# Altium integrated library Xilinx XC4000 XL.IntLib: 450 symbols (part 19 of 49)
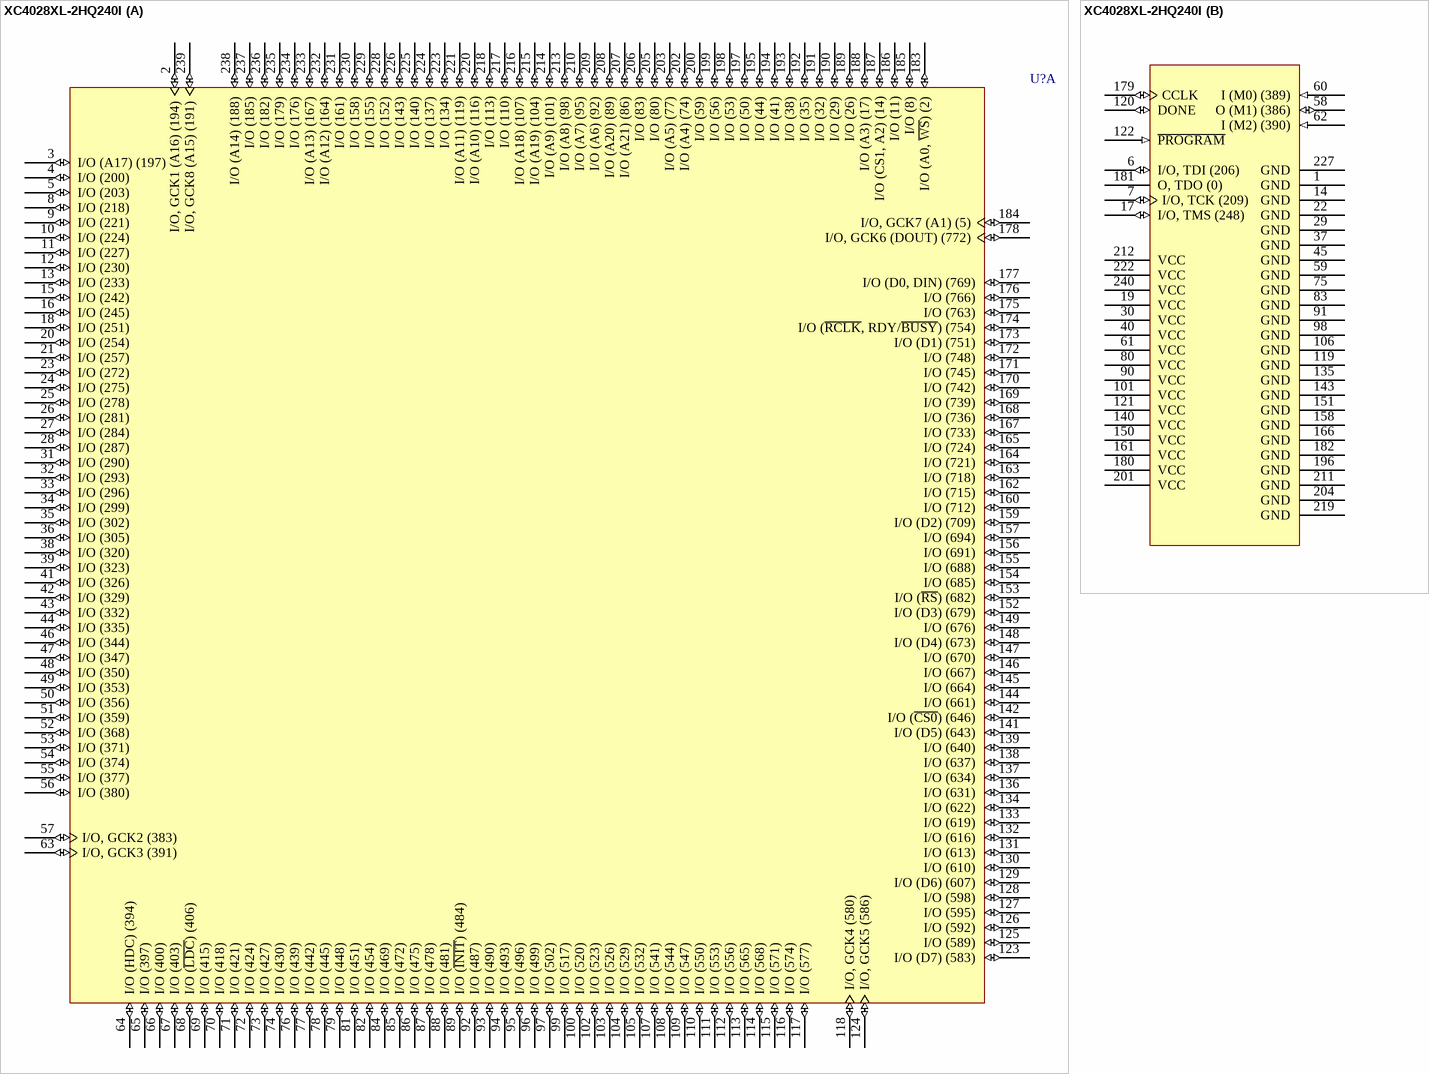
[diagram p417: symbol XC4028XL-2HQ240I]

## XC4028XL-2HQ240I
designator U?
XC4000XL FPGA, 240-Pin HQFP, Industrial Grade; PackageDocument: ver1.1, Oct-2002; Published: 28-Feb-2003; DatasheetDocument: (v1.6) May-99; PackageReference: HQ240; Publisher: Altium Limited; Code_JEDEC: MO-143-GA
footprint HQ240 (240-Pin Heat Sink Quad Flat Pack (HQ240))
part A pins: 2 I/O, GCK1 (A16) (194) (io), 3 I/O (A17) (197) (io), 4 I/O (200) (io), 5 I/O (203) (io), 8 I/O (218) (io), 9 I/O (221) (io), 10 I/O (224) (io), 11 I/O (227) (io), 12 I/O (230) (io), 13 I/O (233) (io), 15 I/O (242) (io), 16 I/O (245) (io), 18 I/O (251) (io), 20 I/O (254) (io), 21 I/O (257) (io), 23 I/O (272) (io), 24 I/O (275) (io), 25 I/O (278) (io), 26 I/O (281) (io), 27 I/O (284) (io), 28 I/O (287) (io), 31 I/O (290) (io), 32 I/O (293) (io), 33 I/O (296) (io), 34 I/O (299) (io), 35 I/O (302) (io), 36 I/O (305) (io), 38 I/O (320) (io), 39 I/O (323) (io), 41 I/O (326) (io), 42 I/O (329) (io), 43 I/O (332) (io), 44 I/O (335) (io), 46 I/O (344) (io), 47 I/O (347) (io), 48 I/O (350) (io), 49 I/O (353) (io), 50 I/O (356) (io), 51 I/O (359) (io), 52 I/O (368) (io), 53 I/O (371) (io), 54 I/O (374) (io), 55 I/O (377) (io), 56 I/O (380) (io), 57 I/O, GCK2 (383) (io), 63 I/O, GCK3 (391) (io), 64 I/O (HDC) (394) (io), 65 I/O (397) (io), 66 I/O (400) (io), 67 I/O (403) (io), 68 I/O (~{LDC}) (406) (io), 69 I/O (415) (io), 70 I/O (418) (io), 71 I/O (421) (io), 72 I/O (424) (io), 73 I/O (427) (io), 74 I/O (430) (io), 76 I/O (439) (io), 77 I/O (442) (io), 78 I/O (445) (io), 79 I/O (448) (io), 81 I/O (451) (io), 82 I/O (454) (io), 84 I/O (469) (io), 85 I/O (472) (io), 86 I/O (475) (io), 87 I/O (478) (io), 88 I/O (481) (io), 89 I/O (~{INIT}) (484) (io), 92 I/O (487) (io), 93 I/O (490) (io), 94 I/O (493) (io), 95 I/O (496) (io), 96 I/O (499) (io), 97 I/O (502) (io), 99 I/O (517) (io), 100 I/O (520) (io), 102 I/O (523) (io), 103 I/O (526) (io), 104 I/O (529) (io), 105 I/O (532) (io), 107 I/O (541) (io), 108 I/O (544) (io), 109 I/O (547) (io), 110 I/O (550) (io), 111 I/O (553) (io), 112 I/O (556) (io), 113 I/O (565) (io), 114 I/O (568) (io), 115 I/O (571) (io), 116 I/O (574) (io), 117 I/O (577) (io), 118 I/O, GCK4 (580) (io), 123 I/O (D7) (583) (io), 124 I/O, GCK5 (586) (io), 125 I/O (589) (io), 126 I/O (592) (io), 127 I/O (595) (io), 128 I/O (598) (io), 129 I/O (D6) (607) (io), 130 I/O (610) (io), 131 I/O (613) (io), 132 I/O (616) (io), 133 I/O (619) (io), 134 I/O (622) (io), 136 I/O (631) (io), 137 I/O (634) (io), 138 I/O (637) (io), 139 I/O (640) (io), 141 I/O (D5) (643) (io), 142 I/O (~{CS0}) (646) (io), 144 I/O (661) (io), 145 I/O (664) (io), 146 I/O (667) (io), 147 I/O (670) (io), 148 I/O (D4) (673) (io), 149 I/O (676) (io), 152 I/O (D3) (679) (io), 153 I/O (~{RS}) (682) (io), 154 I/O (685) (io), 155 I/O (688) (io), 156 I/O (691) (io), 157 I/O (694) (io), 159 I/O (D2) (709) (io), 160 I/O (712) (io), 162 I/O (715) (io), 163 I/O (718) (io), 164 I/O (721) (io), 165 I/O (724) (io), 167 I/O (733) (io), 168 I/O (736) (io), 169 I/O (739) (io), 170 I/O (742) (io), 171 I/O (745) (io), 172 I/O (748) (io), 173 I/O (D1) (751) (io), 174 I/O (~{RCLK}, RDY/~{BUSY}) (754) (io), 175 I/O (763) (io), 176 I/O (766) (io), 177 I/O (D0, DIN) (769) (io), 178 I/O, GCK6 (DOUT) (772) (io), 183 I/O (A0, ~{WS}) (2) (io), 184 I/O, GCK7 (A1) (5) (io), 185 I/O (8) (io), 186 I/O (11) (io), 187 I/O (CS1, A2) (14) (io), 188 I/O (A3) (17) (io), 189 I/O (26) (io), 190 I/O (29) (io), 191 I/O (32) (io), 192 I/O (35) (io), 193 I/O (38) (io), 194 I/O (41) (io), 195 I/O (44) (io), 197 I/O (50) (io), 198 I/O (53) (io), 199 I/O (56) (io), 200 I/O (59) (io), 202 I/O (A4) (74) (io), 203 I/O (A5) (77) (io), 205 I/O (80) (io), 206 I/O (83) (io), 207 I/O (A21) (86) (io), 208 I/O (A20) (89) (io), 209 I/O (A6) (92) (io), 210 I/O (A7) (95) (io), 213 I/O (A8) (98) (io), 214 I/O (A9) (101) (io), 215 I/O (A19) (104) (io), 216 I/O (A18) (107) (io), 217 I/O (110) (io), 218 I/O (113) (io), 220 I/O (A10) (116) (io), 221 I/O (A11) (119) (io), 223 I/O (134) (io), 224 I/O (137) (io), 225 I/O (140) (io), 226 I/O (143) (io), 228 I/O (152) (io), 229 I/O (155) (io), 230 I/O (158) (io), 231 I/O (161) (io), 232 I/O (A12) (164) (io), 233 I/O (A13) (167) (io), 234 I/O (176) (io), 235 I/O (179) (io), 236 I/O (182) (io), 237 I/O (185) (io), 238 I/O (A14) (188) (io), 239 I/O, GCK8 (A15) (191) (io)
part B pins: 1 GND (power), 6 I/O, TDI (206) (io), 7 I/O, TCK (209) (io), 14 GND (power), 17 I/O, TMS (248) (io), 19 VCC (power), 22 GND (power), 29 GND (power), 30 VCC (power), 37 GND (power), 40 VCC (power), 45 GND (power), 58 O (M1) (386) (io), 59 GND (power), 60 I (M0) (389) (in), 61 VCC (power), 62 I (M2) (390) (in), 75 GND (power), 80 VCC (power), 83 GND (power), 90 VCC (power), 91 GND (power), 98 GND (power), 101 VCC (power), 106 GND (power), 119 GND (power), 120 DONE (io), 121 VCC (power), 122 ~{PROGRAM} (in), 135 GND (power), 140 VCC (power), 143 GND (power), 150 VCC (power), 151 GND (power), 158 GND (power), 161 VCC (power), 166 GND (power), 179 CCLK (io), 180 VCC (power), 181 O, TDO (0) (hiz), 182 GND (power), 196 GND (power), 201 VCC (power), 204 GND (power), 211 GND (power), 212 VCC (power), 219 GND (power), 222 VCC (power), 227 GND (power), 240 VCC (power)

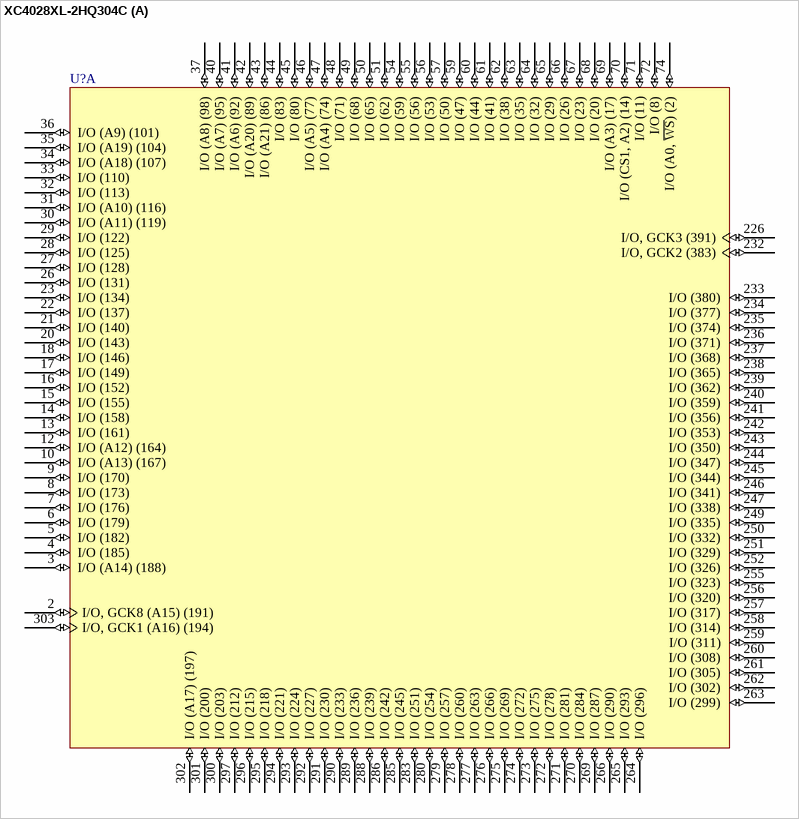
[diagram p200: symbol XC4028XL-2HQ304C]

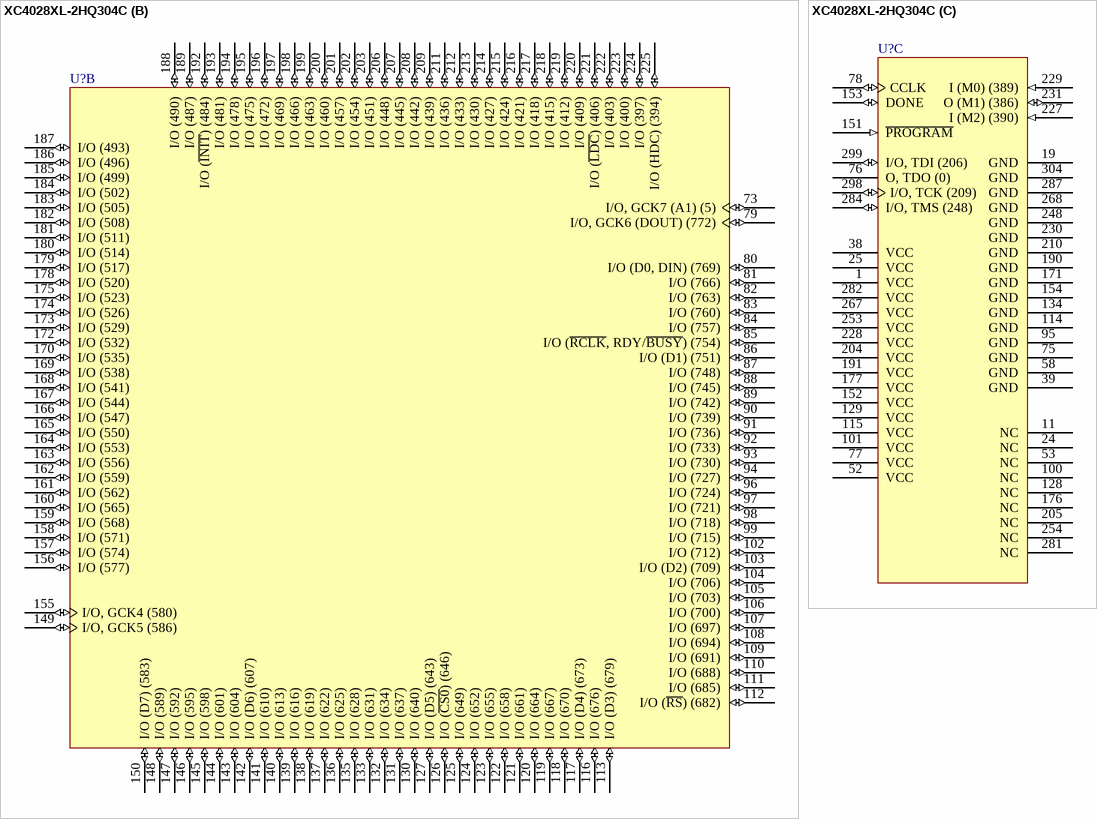
[diagram p201: symbol XC4028XL-2HQ304C]

## XC4028XL-2HQ304C
designator U?
XC4000XL FPGA, 304-Pin HQFP, Commercial Grade; PackageDocument: ver1.1, Oct-2002; Published: 28-Feb-2003; DatasheetDocument: (v1.6) May-99; PackageReference: HQ304; Publisher: Altium Limited; Code_JEDEC: MO-143-JA
footprint HQ304 (304-Pin Heat Sink Quad Flat Pack (HQ304))
part A pins: 2 I/O, GCK8 (A15) (191) (io), 3 I/O (A14) (188) (io), 4 I/O (185) (io), 5 I/O (182) (io), 6 I/O (179) (io), 7 I/O (176) (io), 8 I/O (173) (io), 9 I/O (170) (io), 10 I/O (A13) (167) (io), 12 I/O (A12) (164) (io), 13 I/O (161) (io), 14 I/O (158) (io), 15 I/O (155) (io), 16 I/O (152) (io), 17 I/O (149) (io), 18 I/O (146) (io), 20 I/O (143) (io), 21 I/O (140) (io), 22 I/O (137) (io), 23 I/O (134) (io), 26 I/O (131) (io), 27 I/O (128) (io), 28 I/O (125) (io), 29 I/O (122) (io), 30 I/O (A11) (119) (io), 31 I/O (A10) (116) (io), 32 I/O (113) (io), 33 I/O (110) (io), 34 I/O (A18) (107) (io), 35 I/O (A19) (104) (io), 36 I/O (A9) (101) (io), 37 I/O (A8) (98) (io), 40 I/O (A7) (95) (io), 41 I/O (A6) (92) (io), 42 I/O (A20) (89) (io), 43 I/O (A21) (86) (io), 44 I/O (83) (io), 45 I/O (80) (io), 46 I/O (A5) (77) (io), 47 I/O (A4) (74) (io), 48 I/O (71) (io), 49 I/O (68) (io), 50 I/O (65) (io), 51 I/O (62) (io), 54 I/O (59) (io), 55 I/O (56) (io), 56 I/O (53) (io), 57 I/O (50) (io), 59 I/O (47) (io), 60 I/O (44) (io), 61 I/O (41) (io), 62 I/O (38) (io), 63 I/O (35) (io), 64 I/O (32) (io), 65 I/O (29) (io), 66 I/O (26) (io), 67 I/O (23) (io), 68 I/O (20) (io), 69 I/O (A3) (17) (io), 70 I/O (CS1, A2) (14) (io), 71 I/O (11) (io), 72 I/O (8) (io), 74 I/O (A0, ~{WS}) (2) (io), 226 I/O, GCK3 (391) (io), 232 I/O, GCK2 (383) (io), 233 I/O (380) (io), 234 I/O (377) (io), 235 I/O (374) (io), 236 I/O (371) (io), 237 I/O (368) (io), 238 I/O (365) (io), 239 I/O (362) (io), 240 I/O (359) (io), 241 I/O (356) (io), 242 I/O (353) (io), 243 I/O (350) (io), 244 I/O (347) (io), 245 I/O (344) (io), 246 I/O (341) (io), 247 I/O (338) (io), 249 I/O (335) (io), 250 I/O (332) (io), 251 I/O (329) (io), 252 I/O (326) (io), 255 I/O (323) (io), 256 I/O (320) (io), 257 I/O (317) (io), 258 I/O (314) (io), 259 I/O (311) (io), 260 I/O (308) (io), 261 I/O (305) (io), 262 I/O (302) (io), 263 I/O (299) (io), 264 I/O (296) (io), 265 I/O (293) (io), 266 I/O (290) (io), 269 I/O (287) (io), 270 I/O (284) (io), 271 I/O (281) (io), 272 I/O (278) (io), 273 I/O (275) (io), 274 I/O (272) (io), 275 I/O (269) (io), 276 I/O (266) (io), 277 I/O (263) (io), 278 I/O (260) (io), 279 I/O (257) (io), 280 I/O (254) (io), 283 I/O (251) (io), 285 I/O (245) (io), 286 I/O (242) (io), 288 I/O (239) (io), 289 I/O (236) (io), 290 I/O (233) (io), 291 I/O (230) (io), 292 I/O (227) (io), 293 I/O (224) (io), 294 I/O (221) (io), 295 I/O (218) (io), 296 I/O (215) (io), 297 I/O (212) (io), 300 I/O (203) (io), 301 I/O (200) (io), 302 I/O (A17) (197) (io), 303 I/O, GCK1 (A16) (194) (io)
part B pins: 73 I/O, GCK7 (A1) (5) (io), 79 I/O, GCK6 (DOUT) (772) (io), 80 I/O (D0, DIN) (769) (io), 81 I/O (766) (io), 82 I/O (763) (io), 83 I/O (760) (io), 84 I/O (757) (io), 85 I/O (~{RCLK}, RDY/~{BUSY}) (754) (io), 86 I/O (D1) (751) (io), 87 I/O (748) (io), 88 I/O (745) (io), 89 I/O (742) (io), 90 I/O (739) (io), 91 I/O (736) (io), 92 I/O (733) (io), 93 I/O (730) (io), 94 I/O (727) (io), 96 I/O (724) (io), 97 I/O (721) (io), 98 I/O (718) (io), 99 I/O (715) (io), 102 I/O (712) (io), 103 I/O (D2) (709) (io), 104 I/O (706) (io), 105 I/O (703) (io), 106 I/O (700) (io), 107 I/O (697) (io), 108 I/O (694) (io), 109 I/O (691) (io), 110 I/O (688) (io), 111 I/O (685) (io), 112 I/O (~{RS}) (682) (io), 113 I/O (D3) (679) (io), 116 I/O (676) (io), 117 I/O (D4) (673) (io), 118 I/O (670) (io), 119 I/O (667) (io), 120 I/O (664) (io), 121 I/O (661) (io), 122 I/O (658) (io), 123 I/O (655) (io), 124 I/O (652) (io), 125 I/O (649) (io), 126 I/O (~{CS0}) (646) (io), 127 I/O (D5) (643) (io), 130 I/O (640) (io), 131 I/O (637) (io), 132 I/O (634) (io), 133 I/O (631) (io), 135 I/O (628) (io), 136 I/O (625) (io), 137 I/O (622) (io), 138 I/O (619) (io), 139 I/O (616) (io), 140 I/O (613) (io), 141 I/O (610) (io), 142 I/O (D6) (607) (io), 143 I/O (604) (io), 144 I/O (601) (io), 145 I/O (598) (io), 146 I/O (595) (io), 147 I/O (592) (io), 148 I/O (589) (io), 149 I/O, GCK5 (586) (io), 150 I/O (D7) (583) (io), 155 I/O, GCK4 (580) (io), 156 I/O (577) (io), 157 I/O (574) (io), 158 I/O (571) (io), 159 I/O (568) (io), 160 I/O (565) (io), 161 I/O (562) (io), 162 I/O (559) (io), 163 I/O (556) (io), 164 I/O (553) (io), 165 I/O (550) (io), 166 I/O (547) (io), 167 I/O (544) (io), 168 I/O (541) (io), 169 I/O (538) (io), 170 I/O (535) (io), 172 I/O (532) (io), 173 I/O (529) (io), 174 I/O (526) (io), 175 I/O (523) (io), 178 I/O (520) (io), 179 I/O (517) (io), 180 I/O (514) (io), 181 I/O (511) (io), 182 I/O (508) (io), 183 I/O (505) (io), 184 I/O (502) (io), 185 I/O (499) (io), 186 I/O (496) (io), 187 I/O (493) (io), 188 I/O (490) (io), 189 I/O (487) (io), 192 I/O (~{INIT}) (484) (io), 193 I/O (481) (io), 194 I/O (478) (io), 195 I/O (475) (io), 196 I/O (472) (io), 197 I/O (469) (io), 198 I/O (466) (io), 199 I/O (463) (io), 200 I/O (460) (io), 201 I/O (457) (io), 202 I/O (454) (io), 203 I/O (451) (io), 206 I/O (448) (io), 207 I/O (445) (io), 208 I/O (442) (io), 209 I/O (439) (io), 211 I/O (436) (io), 212 I/O (433) (io), 213 I/O (430) (io), 214 I/O (427) (io), 215 I/O (424) (io), 216 I/O (421) (io), 217 I/O (418) (io), 218 I/O (415) (io), 219 I/O (412) (io), 220 I/O (409) (io), 221 I/O (~{LDC}) (406) (io), 222 I/O (403) (io), 223 I/O (400) (io), 224 I/O (397) (io), 225 I/O (HDC) (394) (io)
part C pins: 1 VCC (power), 11 NC, 19 GND (power), 24 NC, 25 VCC (power), 38 VCC (power), 39 GND (power), 52 VCC (power), 53 NC, 58 GND (power), 75 GND (power), 76 O, TDO (0) (hiz), 77 VCC (power), 78 CCLK (io), 95 GND (power), 100 NC, 101 VCC (power), 114 GND (power), 115 VCC (power), 128 NC, 129 VCC (power), 134 GND (power), 151 ~{PROGRAM} (in), 152 VCC (power), 153 DONE (io), 154 GND (power), 171 GND (power), 176 NC, 177 VCC (power), 190 GND (power), 191 VCC (power), 204 VCC (power), 205 NC, 210 GND (power), 227 I (M2) (390) (in), 228 VCC (power), 229 I (M0) (389) (in), 230 GND (power), 231 O (M1) (386) (io), 248 GND (power), 253 VCC (power), 254 NC, 267 VCC (power), 268 GND (power), 281 NC, 282 VCC (power), 284 I/O, TMS (248) (io), 287 GND (power), 298 I/O, TCK (209) (io), 299 I/O, TDI (206) (io), 304 GND (power)

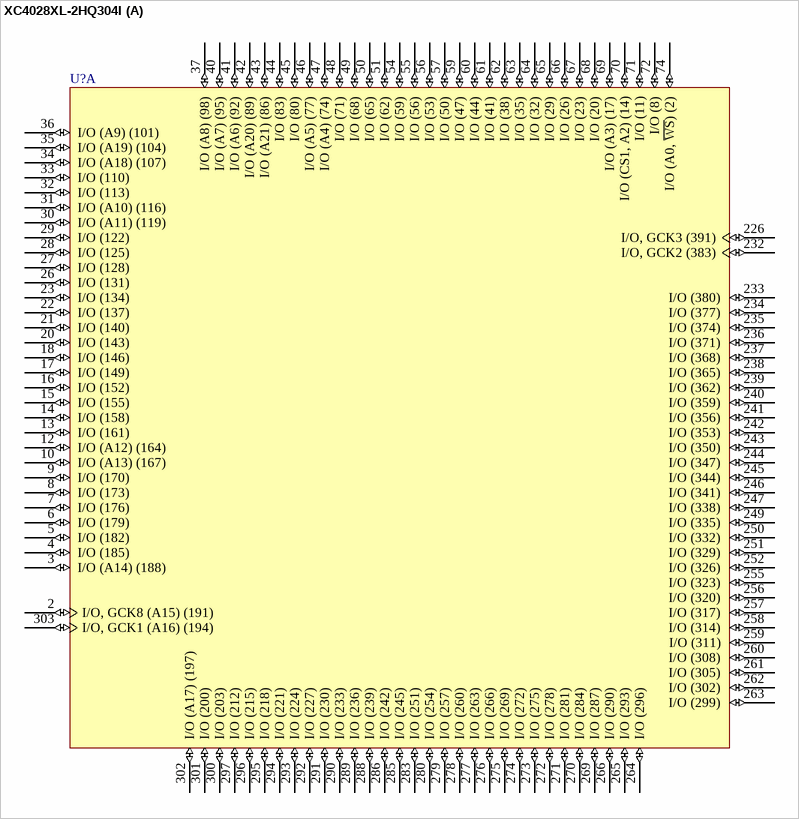
[diagram p202: symbol XC4028XL-2HQ304I]

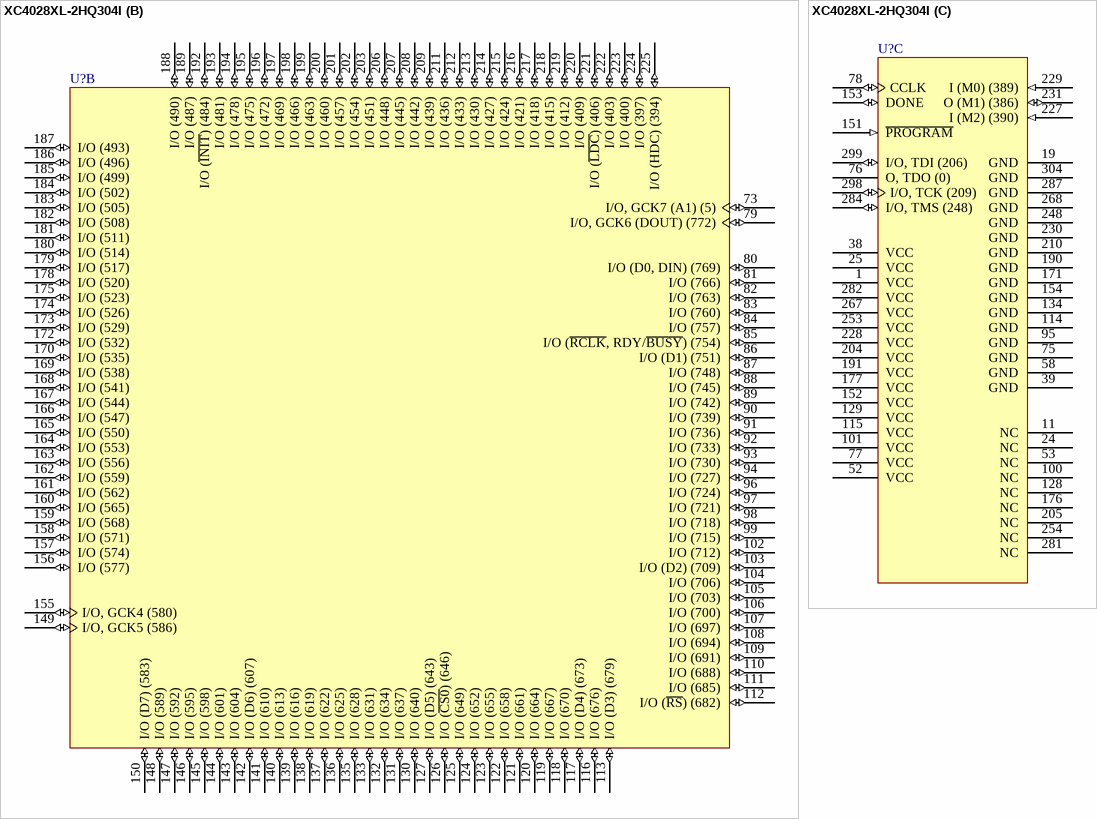
[diagram p203: symbol XC4028XL-2HQ304I]

## XC4028XL-2HQ304I
designator U?
XC4000XL FPGA, 304-Pin HQFP, Industrial Grade; PackageDocument: ver1.1, Oct-2002; Published: 28-Feb-2003; DatasheetDocument: (v1.6) May-99; PackageReference: HQ304; Publisher: Altium Limited; Code_JEDEC: MO-143-JA
footprint HQ304 (304-Pin Heat Sink Quad Flat Pack (HQ304))
part A pins: 2 I/O, GCK8 (A15) (191) (io), 3 I/O (A14) (188) (io), 4 I/O (185) (io), 5 I/O (182) (io), 6 I/O (179) (io), 7 I/O (176) (io), 8 I/O (173) (io), 9 I/O (170) (io), 10 I/O (A13) (167) (io), 12 I/O (A12) (164) (io), 13 I/O (161) (io), 14 I/O (158) (io), 15 I/O (155) (io), 16 I/O (152) (io), 17 I/O (149) (io), 18 I/O (146) (io), 20 I/O (143) (io), 21 I/O (140) (io), 22 I/O (137) (io), 23 I/O (134) (io), 26 I/O (131) (io), 27 I/O (128) (io), 28 I/O (125) (io), 29 I/O (122) (io), 30 I/O (A11) (119) (io), 31 I/O (A10) (116) (io), 32 I/O (113) (io), 33 I/O (110) (io), 34 I/O (A18) (107) (io), 35 I/O (A19) (104) (io), 36 I/O (A9) (101) (io), 37 I/O (A8) (98) (io), 40 I/O (A7) (95) (io), 41 I/O (A6) (92) (io), 42 I/O (A20) (89) (io), 43 I/O (A21) (86) (io), 44 I/O (83) (io), 45 I/O (80) (io), 46 I/O (A5) (77) (io), 47 I/O (A4) (74) (io), 48 I/O (71) (io), 49 I/O (68) (io), 50 I/O (65) (io), 51 I/O (62) (io), 54 I/O (59) (io), 55 I/O (56) (io), 56 I/O (53) (io), 57 I/O (50) (io), 59 I/O (47) (io), 60 I/O (44) (io), 61 I/O (41) (io), 62 I/O (38) (io), 63 I/O (35) (io), 64 I/O (32) (io), 65 I/O (29) (io), 66 I/O (26) (io), 67 I/O (23) (io), 68 I/O (20) (io), 69 I/O (A3) (17) (io), 70 I/O (CS1, A2) (14) (io), 71 I/O (11) (io), 72 I/O (8) (io), 74 I/O (A0, ~{WS}) (2) (io), 226 I/O, GCK3 (391) (io), 232 I/O, GCK2 (383) (io), 233 I/O (380) (io), 234 I/O (377) (io), 235 I/O (374) (io), 236 I/O (371) (io), 237 I/O (368) (io), 238 I/O (365) (io), 239 I/O (362) (io), 240 I/O (359) (io), 241 I/O (356) (io), 242 I/O (353) (io), 243 I/O (350) (io), 244 I/O (347) (io), 245 I/O (344) (io), 246 I/O (341) (io), 247 I/O (338) (io), 249 I/O (335) (io), 250 I/O (332) (io), 251 I/O (329) (io), 252 I/O (326) (io), 255 I/O (323) (io), 256 I/O (320) (io), 257 I/O (317) (io), 258 I/O (314) (io), 259 I/O (311) (io), 260 I/O (308) (io), 261 I/O (305) (io), 262 I/O (302) (io), 263 I/O (299) (io), 264 I/O (296) (io), 265 I/O (293) (io), 266 I/O (290) (io), 269 I/O (287) (io), 270 I/O (284) (io), 271 I/O (281) (io), 272 I/O (278) (io), 273 I/O (275) (io), 274 I/O (272) (io), 275 I/O (269) (io), 276 I/O (266) (io), 277 I/O (263) (io), 278 I/O (260) (io), 279 I/O (257) (io), 280 I/O (254) (io), 283 I/O (251) (io), 285 I/O (245) (io), 286 I/O (242) (io), 288 I/O (239) (io), 289 I/O (236) (io), 290 I/O (233) (io), 291 I/O (230) (io), 292 I/O (227) (io), 293 I/O (224) (io), 294 I/O (221) (io), 295 I/O (218) (io), 296 I/O (215) (io), 297 I/O (212) (io), 300 I/O (203) (io), 301 I/O (200) (io), 302 I/O (A17) (197) (io), 303 I/O, GCK1 (A16) (194) (io)
part B pins: 73 I/O, GCK7 (A1) (5) (io), 79 I/O, GCK6 (DOUT) (772) (io), 80 I/O (D0, DIN) (769) (io), 81 I/O (766) (io), 82 I/O (763) (io), 83 I/O (760) (io), 84 I/O (757) (io), 85 I/O (~{RCLK}, RDY/~{BUSY}) (754) (io), 86 I/O (D1) (751) (io), 87 I/O (748) (io), 88 I/O (745) (io), 89 I/O (742) (io), 90 I/O (739) (io), 91 I/O (736) (io), 92 I/O (733) (io), 93 I/O (730) (io), 94 I/O (727) (io), 96 I/O (724) (io), 97 I/O (721) (io), 98 I/O (718) (io), 99 I/O (715) (io), 102 I/O (712) (io), 103 I/O (D2) (709) (io), 104 I/O (706) (io), 105 I/O (703) (io), 106 I/O (700) (io), 107 I/O (697) (io), 108 I/O (694) (io), 109 I/O (691) (io), 110 I/O (688) (io), 111 I/O (685) (io), 112 I/O (~{RS}) (682) (io), 113 I/O (D3) (679) (io), 116 I/O (676) (io), 117 I/O (D4) (673) (io), 118 I/O (670) (io), 119 I/O (667) (io), 120 I/O (664) (io), 121 I/O (661) (io), 122 I/O (658) (io), 123 I/O (655) (io), 124 I/O (652) (io), 125 I/O (649) (io), 126 I/O (~{CS0}) (646) (io), 127 I/O (D5) (643) (io), 130 I/O (640) (io), 131 I/O (637) (io), 132 I/O (634) (io), 133 I/O (631) (io), 135 I/O (628) (io), 136 I/O (625) (io), 137 I/O (622) (io), 138 I/O (619) (io), 139 I/O (616) (io), 140 I/O (613) (io), 141 I/O (610) (io), 142 I/O (D6) (607) (io), 143 I/O (604) (io), 144 I/O (601) (io), 145 I/O (598) (io), 146 I/O (595) (io), 147 I/O (592) (io), 148 I/O (589) (io), 149 I/O, GCK5 (586) (io), 150 I/O (D7) (583) (io), 155 I/O, GCK4 (580) (io), 156 I/O (577) (io), 157 I/O (574) (io), 158 I/O (571) (io), 159 I/O (568) (io), 160 I/O (565) (io), 161 I/O (562) (io), 162 I/O (559) (io), 163 I/O (556) (io), 164 I/O (553) (io), 165 I/O (550) (io), 166 I/O (547) (io), 167 I/O (544) (io), 168 I/O (541) (io), 169 I/O (538) (io), 170 I/O (535) (io), 172 I/O (532) (io), 173 I/O (529) (io), 174 I/O (526) (io), 175 I/O (523) (io), 178 I/O (520) (io), 179 I/O (517) (io), 180 I/O (514) (io), 181 I/O (511) (io), 182 I/O (508) (io), 183 I/O (505) (io), 184 I/O (502) (io), 185 I/O (499) (io), 186 I/O (496) (io), 187 I/O (493) (io), 188 I/O (490) (io), 189 I/O (487) (io), 192 I/O (~{INIT}) (484) (io), 193 I/O (481) (io), 194 I/O (478) (io), 195 I/O (475) (io), 196 I/O (472) (io), 197 I/O (469) (io), 198 I/O (466) (io), 199 I/O (463) (io), 200 I/O (460) (io), 201 I/O (457) (io), 202 I/O (454) (io), 203 I/O (451) (io), 206 I/O (448) (io), 207 I/O (445) (io), 208 I/O (442) (io), 209 I/O (439) (io), 211 I/O (436) (io), 212 I/O (433) (io), 213 I/O (430) (io), 214 I/O (427) (io), 215 I/O (424) (io), 216 I/O (421) (io), 217 I/O (418) (io), 218 I/O (415) (io), 219 I/O (412) (io), 220 I/O (409) (io), 221 I/O (~{LDC}) (406) (io), 222 I/O (403) (io), 223 I/O (400) (io), 224 I/O (397) (io), 225 I/O (HDC) (394) (io)
part C pins: 1 VCC (power), 11 NC, 19 GND (power), 24 NC, 25 VCC (power), 38 VCC (power), 39 GND (power), 52 VCC (power), 53 NC, 58 GND (power), 75 GND (power), 76 O, TDO (0) (hiz), 77 VCC (power), 78 CCLK (io), 95 GND (power), 100 NC, 101 VCC (power), 114 GND (power), 115 VCC (power), 128 NC, 129 VCC (power), 134 GND (power), 151 ~{PROGRAM} (in), 152 VCC (power), 153 DONE (io), 154 GND (power), 171 GND (power), 176 NC, 177 VCC (power), 190 GND (power), 191 VCC (power), 204 VCC (power), 205 NC, 210 GND (power), 227 I (M2) (390) (in), 228 VCC (power), 229 I (M0) (389) (in), 230 GND (power), 231 O (M1) (386) (io), 248 GND (power), 253 VCC (power), 254 NC, 267 VCC (power), 268 GND (power), 281 NC, 282 VCC (power), 284 I/O, TMS (248) (io), 287 GND (power), 298 I/O, TCK (209) (io), 299 I/O, TDI (206) (io), 304 GND (power)

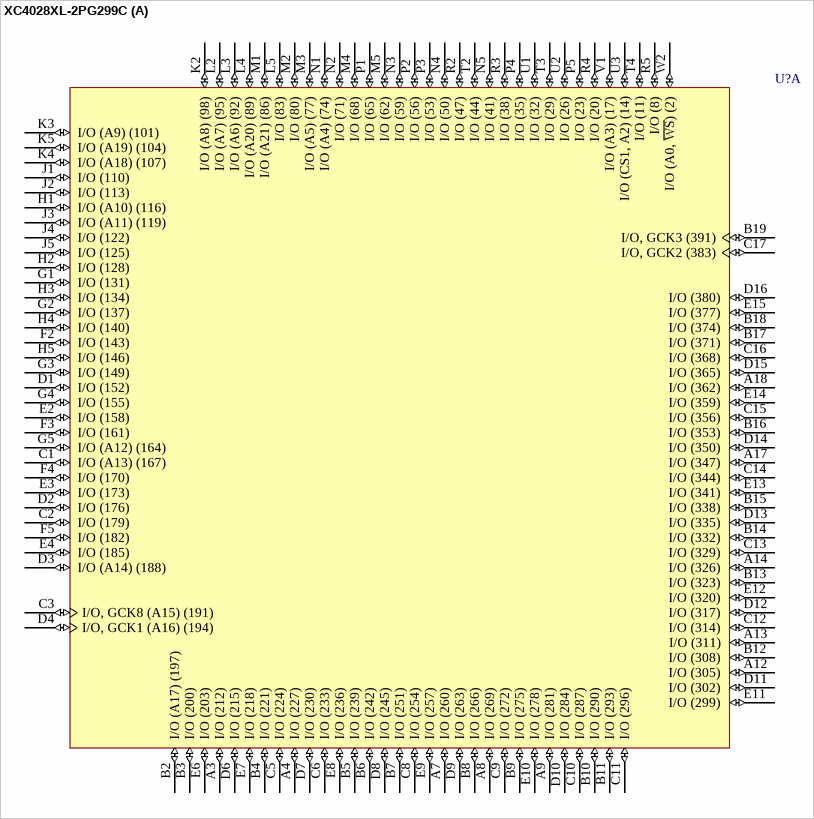
[diagram p204: symbol XC4028XL-2PG299C]

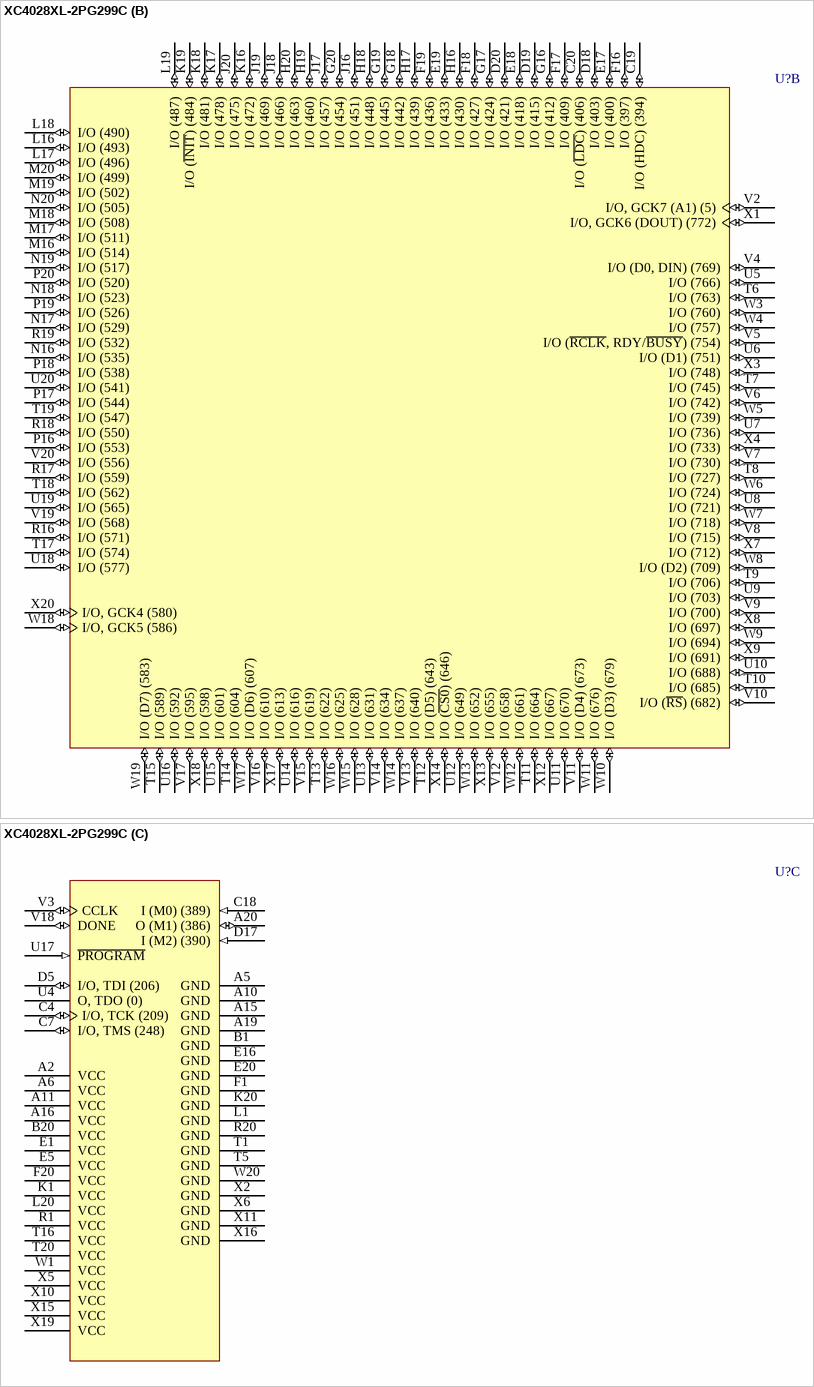
[diagram p205: symbol XC4028XL-2PG299C]

## XC4028XL-2PG299C
designator U?
XC4000XL FPGA, 299-Pin PGA, Commercial Grade; PackageDocument: ver1.0, Jun-2000; Published: 28-Feb-2003; DatasheetDocument: (v1.6) May-99; PackageReference: PG299; Publisher: Altium Limited
footprint PG299 (299-Pin Ceramic Pin Grid Array (PG299))
part A pins: A3 I/O (212) (io), A4 I/O (227) (io), A7 I/O (260) (io), A8 I/O (269) (io), A9 I/O (281) (io), A12 I/O (305) (io), A13 I/O (311) (io), A14 I/O (326) (io), A17 I/O (347) (io), A18 I/O (362) (io), B2 I/O (A17) (197) (io), B3 I/O (200) (io), B4 I/O (221) (io), B5 I/O (239) (io), B6 I/O (242) (io), B7 I/O (251) (io), B8 I/O (266) (io), B9 I/O (275) (io), B10 I/O (290) (io), B11 I/O (293) (io), B12 I/O (308) (io), B13 I/O (323) (io), B14 I/O (332) (io), B15 I/O (338) (io), B16 I/O (353) (io), B17 I/O (371) (io), B18 I/O (374) (io), B19 I/O, GCK3 (391) (io), C1 I/O (A13) (167) (io), C2 I/O (179) (io), C3 I/O, GCK8 (A15) (191) (io), C5 I/O (224) (io), C6 I/O (233) (io), C8 I/O (254) (io), C9 I/O (272) (io), C10 I/O (287) (io), C11 I/O (296) (io), C12 I/O (314) (io), C13 I/O (329) (io), C14 I/O (344) (io), C15 I/O (356) (io), C16 I/O (368) (io), C17 I/O, GCK2 (383) (io), D1 I/O (152) (io), D2 I/O (176) (io), D3 I/O (A14) (188) (io), D4 I/O, GCK1 (A16) (194) (io), D6 I/O (215) (io), D7 I/O (230) (io), D8 I/O (245) (io), D9 I/O (263) (io), D10 I/O (284) (io), D11 I/O (302) (io), D12 I/O (317) (io), D13 I/O (335) (io), D14 I/O (350) (io), D15 I/O (365) (io), D16 I/O (380) (io), E2 I/O (158) (io), E3 I/O (173) (io), E4 I/O (185) (io), E6 I/O (203) (io), E7 I/O (218) (io), E8 I/O (236) (io), E9 I/O (257) (io), E10 I/O (278) (io), E11 I/O (299) (io), E12 I/O (320) (io), E13 I/O (341) (io), E14 I/O (359) (io), E15 I/O (377) (io), F2 I/O (143) (io), F3 I/O (161) (io), F4 I/O (170) (io), F5 I/O (182) (io), G1 I/O (131) (io), G2 I/O (137) (io), G3 I/O (149) (io), G4 I/O (155) (io), G5 I/O (A12) (164) (io), H1 I/O (A10) (116) (io), H2 I/O (128) (io), H3 I/O (134) (io), H4 I/O (140) (io), H5 I/O (146) (io), J1 I/O (110) (io), J2 I/O (113) (io), J3 I/O (A11) (119) (io), J4 I/O (122) (io), J5 I/O (125) (io), K2 I/O (A8) (98) (io), K3 I/O (A9) (101) (io), K4 I/O (A18) (107) (io), K5 I/O (A19) (104) (io), L2 I/O (A7) (95) (io), L3 I/O (A6) (92) (io), L4 I/O (A20) (89) (io), L5 I/O (83) (io), M1 I/O (A21) (86) (io), M2 I/O (80) (io), M3 I/O (A5) (77) (io), M4 I/O (68) (io), M5 I/O (62) (io), N1 I/O (A4) (74) (io), N2 I/O (71) (io), N3 I/O (59) (io), N4 I/O (50) (io), N5 I/O (41) (io), P1 I/O (65) (io), P2 I/O (56) (io), P3 I/O (53) (io), P4 I/O (35) (io), P5 I/O (23) (io), R2 I/O (47) (io), R3 I/O (38) (io), R4 I/O (20) (io), R5 I/O (8) (io), T2 I/O (44) (io), T3 I/O (29) (io), T4 I/O (11) (io), U1 I/O (32) (io), U2 I/O (26) (io), U3 I/O (CS1, A2) (14) (io), V1 I/O (A3) (17) (io), W2 I/O (A0, ~{WS}) (2) (io)
part B pins: C19 I/O (HDC) (394) (io), C20 I/O (~{LDC}) (406) (io), D18 I/O (403) (io), D19 I/O (415) (io), D20 I/O (421) (io), E17 I/O (400) (io), E18 I/O (418) (io), E19 I/O (433) (io), F16 I/O (397) (io), F17 I/O (409) (io), F18 I/O (427) (io), F19 I/O (436) (io), G16 I/O (412) (io), G17 I/O (424) (io), G18 I/O (442) (io), G19 I/O (445) (io), G20 I/O (454) (io), H16 I/O (430) (io), H17 I/O (439) (io), H18 I/O (448) (io), H19 I/O (460) (io), H20 I/O (463) (io), J16 I/O (451) (io), J17 I/O (457) (io), J18 I/O (466) (io), J19 I/O (469) (io), J20 I/O (475) (io), K16 I/O (472) (io), K17 I/O (478) (io), K18 I/O (481) (io), K19 I/O (~{INIT}) (484) (io), L16 I/O (493) (io), L17 I/O (496) (io), L18 I/O (490) (io), L19 I/O (487) (io), M16 I/O (514) (io), M17 I/O (511) (io), M18 I/O (508) (io), M19 I/O (502) (io), M20 I/O (499) (io), N16 I/O (535) (io), N17 I/O (529) (io), N18 I/O (523) (io), N19 I/O (517) (io), N20 I/O (505) (io), P16 I/O (553) (io), P17 I/O (544) (io), P18 I/O (538) (io), P19 I/O (526) (io), P20 I/O (520) (io), R16 I/O (571) (io), R17 I/O (559) (io), R18 I/O (550) (io), R19 I/O (532) (io), T6 I/O (763) (io), T7 I/O (745) (io), T8 I/O (727) (io), T9 I/O (706) (io), T10 I/O (685) (io), T11 I/O (664) (io), T12 I/O (D5) (643) (io), T13 I/O (622) (io), T14 I/O (604) (io), T15 I/O (589) (io), T17 I/O (574) (io), T18 I/O (562) (io), T19 I/O (547) (io), U5 I/O (766) (io), U6 I/O (D1) (751) (io), U7 I/O (736) (io), U8 I/O (721) (io), U9 I/O (703) (io), U10 I/O (688) (io), U11 I/O (670) (io), U12 I/O (649) (io), U13 I/O (631) (io), U14 I/O (616) (io), U15 I/O (601) (io), U16 I/O (592) (io), U18 I/O (577) (io), U19 I/O (565) (io), U20 I/O (541) (io), V2 I/O, GCK7 (A1) (5) (io), V4 I/O (D0, DIN) (769) (io), V5 I/O (~{RCLK}, RDY/~{BUSY}) (754) (io), V6 I/O (742) (io), V7 I/O (730) (io), V8 I/O (715) (io), V9 I/O (700) (io), V10 I/O (~{RS}) (682) (io), V11 I/O (D4) (673) (io), V12 I/O (658) (io), V13 I/O (640) (io), V14 I/O (634) (io), V15 I/O (619) (io), V16 I/O (610) (io), V17 I/O (595) (io), V19 I/O (568) (io), V20 I/O (556) (io), W3 I/O (760) (io), W4 I/O (757) (io), W5 I/O (739) (io), W6 I/O (724) (io), W7 I/O (718) (io), W8 I/O (D2) (709) (io), W9 I/O (694) (io), W10 I/O (D3) (679) (io), W11 I/O (676) (io), W12 I/O (661) (io), W13 I/O (652) (io), W14 I/O (637) (io), W15 I/O (628) (io), W16 I/O (625) (io), W17 I/O (D6) (607) (io), W18 I/O, GCK5 (586) (io), W19 I/O (D7) (583) (io), X1 I/O, GCK6 (DOUT) (772) (io), X3 I/O (748) (io), X4 I/O (733) (io), X7 I/O (712) (io), X8 I/O (697) (io), X9 I/O (691) (io), X12 I/O (667) (io), X13 I/O (655) (io), X14 I/O (~{CS0}) (646) (io), X17 I/O (613) (io), X18 I/O (598) (io), X20 I/O, GCK4 (580) (io)
part C pins: A2 VCC (power), A5 GND (power), A6 VCC (power), A10 GND (power), A11 VCC (power), A15 GND (power), A16 VCC (power), A19 GND (power), A20 O (M1) (386) (io), B1 GND (power), B20 VCC (power), C4 I/O, TCK (209) (io), C7 I/O, TMS (248) (io), C18 I (M0) (389) (in), D5 I/O, TDI (206) (io), D17 I (M2) (390) (in), E1 VCC (power), E5 VCC (power), E16 GND (power), E20 GND (power), F1 GND (power), F20 VCC (power), K1 VCC (power), K20 GND (power), L1 GND (power), L20 VCC (power), R1 VCC (power), R20 GND (power), T1 GND (power), T5 GND (power), T16 VCC (power), T20 VCC (power), U4 O, TDO (0) (hiz), U17 ~{PROGRAM} (in), V3 CCLK (io), V18 DONE (io), W1 VCC (power), W20 GND (power), X2 GND (power), X5 VCC (power), X6 GND (power), X10 VCC (power), X11 GND (power), X15 VCC (power), X16 GND (power), X19 VCC (power)

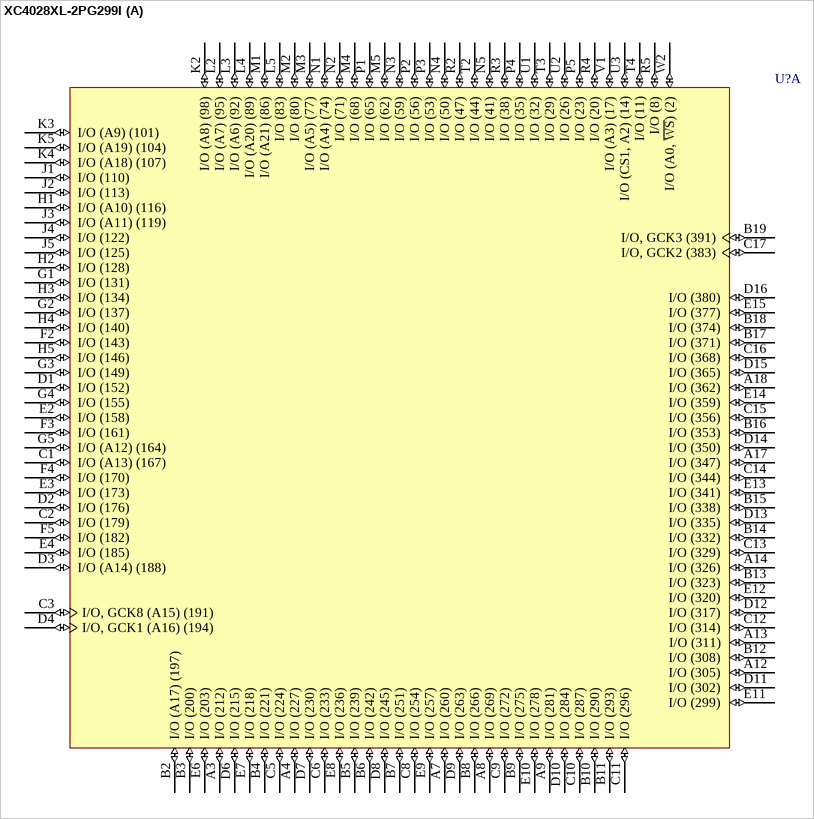
[diagram p206: symbol XC4028XL-2PG299I]

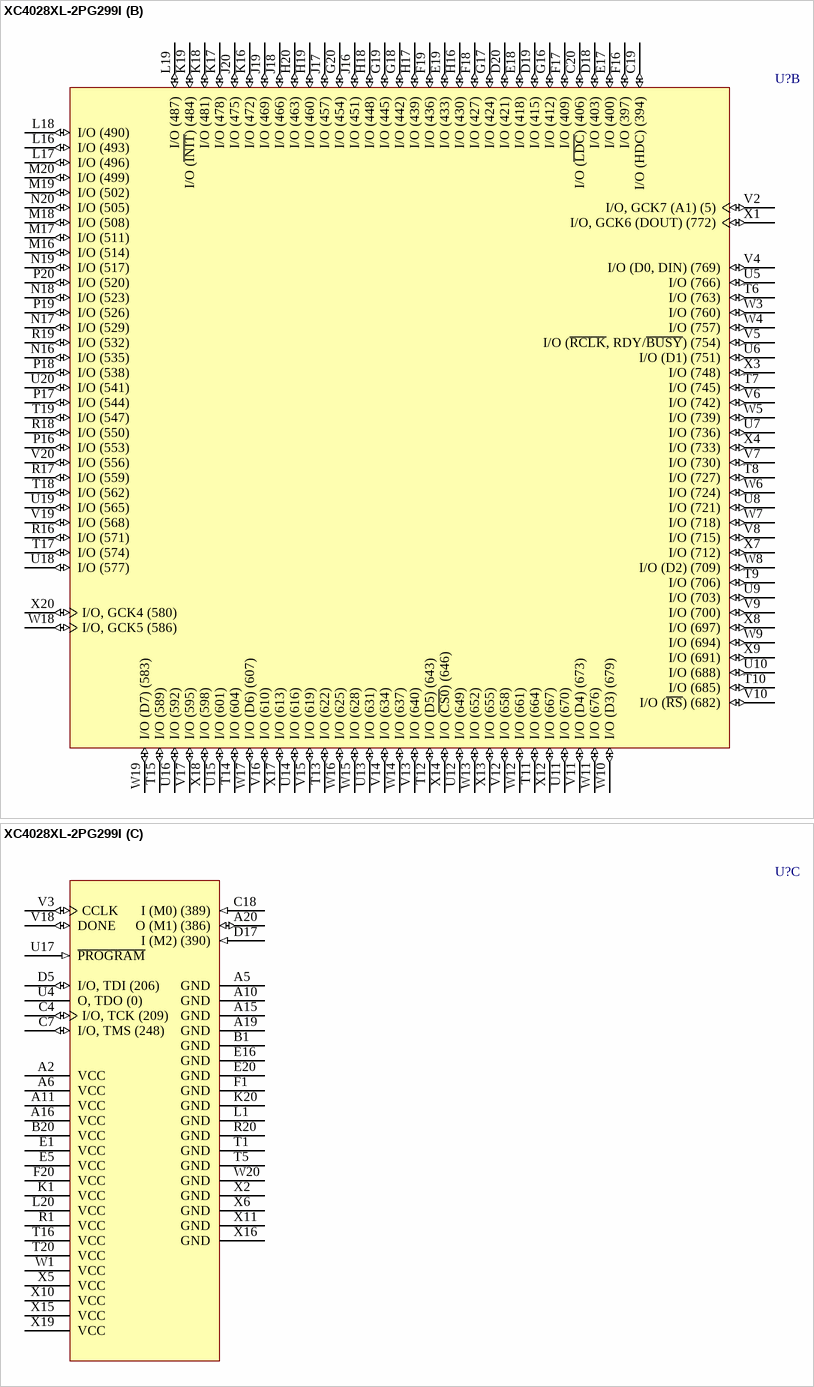
[diagram p207: symbol XC4028XL-2PG299I]

## XC4028XL-2PG299I
designator U?
XC4000XL FPGA, 299-Pin PGA, Industrial Grade; PackageDocument: ver1.0, Jun-2000; Published: 28-Feb-2003; DatasheetDocument: (v1.6) May-99; PackageReference: PG299; Publisher: Altium Limited
footprint PG299 (299-Pin Ceramic Pin Grid Array (PG299))
part A pins: A3 I/O (212) (io), A4 I/O (227) (io), A7 I/O (260) (io), A8 I/O (269) (io), A9 I/O (281) (io), A12 I/O (305) (io), A13 I/O (311) (io), A14 I/O (326) (io), A17 I/O (347) (io), A18 I/O (362) (io), B2 I/O (A17) (197) (io), B3 I/O (200) (io), B4 I/O (221) (io), B5 I/O (239) (io), B6 I/O (242) (io), B7 I/O (251) (io), B8 I/O (266) (io), B9 I/O (275) (io), B10 I/O (290) (io), B11 I/O (293) (io), B12 I/O (308) (io), B13 I/O (323) (io), B14 I/O (332) (io), B15 I/O (338) (io), B16 I/O (353) (io), B17 I/O (371) (io), B18 I/O (374) (io), B19 I/O, GCK3 (391) (io), C1 I/O (A13) (167) (io), C2 I/O (179) (io), C3 I/O, GCK8 (A15) (191) (io), C5 I/O (224) (io), C6 I/O (233) (io), C8 I/O (254) (io), C9 I/O (272) (io), C10 I/O (287) (io), C11 I/O (296) (io), C12 I/O (314) (io), C13 I/O (329) (io), C14 I/O (344) (io), C15 I/O (356) (io), C16 I/O (368) (io), C17 I/O, GCK2 (383) (io), D1 I/O (152) (io), D2 I/O (176) (io), D3 I/O (A14) (188) (io), D4 I/O, GCK1 (A16) (194) (io), D6 I/O (215) (io), D7 I/O (230) (io), D8 I/O (245) (io), D9 I/O (263) (io), D10 I/O (284) (io), D11 I/O (302) (io), D12 I/O (317) (io), D13 I/O (335) (io), D14 I/O (350) (io), D15 I/O (365) (io), D16 I/O (380) (io), E2 I/O (158) (io), E3 I/O (173) (io), E4 I/O (185) (io), E6 I/O (203) (io), E7 I/O (218) (io), E8 I/O (236) (io), E9 I/O (257) (io), E10 I/O (278) (io), E11 I/O (299) (io), E12 I/O (320) (io), E13 I/O (341) (io), E14 I/O (359) (io), E15 I/O (377) (io), F2 I/O (143) (io), F3 I/O (161) (io), F4 I/O (170) (io), F5 I/O (182) (io), G1 I/O (131) (io), G2 I/O (137) (io), G3 I/O (149) (io), G4 I/O (155) (io), G5 I/O (A12) (164) (io), H1 I/O (A10) (116) (io), H2 I/O (128) (io), H3 I/O (134) (io), H4 I/O (140) (io), H5 I/O (146) (io), J1 I/O (110) (io), J2 I/O (113) (io), J3 I/O (A11) (119) (io), J4 I/O (122) (io), J5 I/O (125) (io), K2 I/O (A8) (98) (io), K3 I/O (A9) (101) (io), K4 I/O (A18) (107) (io), K5 I/O (A19) (104) (io), L2 I/O (A7) (95) (io), L3 I/O (A6) (92) (io), L4 I/O (A20) (89) (io), L5 I/O (83) (io), M1 I/O (A21) (86) (io), M2 I/O (80) (io), M3 I/O (A5) (77) (io), M4 I/O (68) (io), M5 I/O (62) (io), N1 I/O (A4) (74) (io), N2 I/O (71) (io), N3 I/O (59) (io), N4 I/O (50) (io), N5 I/O (41) (io), P1 I/O (65) (io), P2 I/O (56) (io), P3 I/O (53) (io), P4 I/O (35) (io), P5 I/O (23) (io), R2 I/O (47) (io), R3 I/O (38) (io), R4 I/O (20) (io), R5 I/O (8) (io), T2 I/O (44) (io), T3 I/O (29) (io), T4 I/O (11) (io), U1 I/O (32) (io), U2 I/O (26) (io), U3 I/O (CS1, A2) (14) (io), V1 I/O (A3) (17) (io), W2 I/O (A0, ~{WS}) (2) (io)
part B pins: C19 I/O (HDC) (394) (io), C20 I/O (~{LDC}) (406) (io), D18 I/O (403) (io), D19 I/O (415) (io), D20 I/O (421) (io), E17 I/O (400) (io), E18 I/O (418) (io), E19 I/O (433) (io), F16 I/O (397) (io), F17 I/O (409) (io), F18 I/O (427) (io), F19 I/O (436) (io), G16 I/O (412) (io), G17 I/O (424) (io), G18 I/O (442) (io), G19 I/O (445) (io), G20 I/O (454) (io), H16 I/O (430) (io), H17 I/O (439) (io), H18 I/O (448) (io), H19 I/O (460) (io), H20 I/O (463) (io), J16 I/O (451) (io), J17 I/O (457) (io), J18 I/O (466) (io), J19 I/O (469) (io), J20 I/O (475) (io), K16 I/O (472) (io), K17 I/O (478) (io), K18 I/O (481) (io), K19 I/O (~{INIT}) (484) (io), L16 I/O (493) (io), L17 I/O (496) (io), L18 I/O (490) (io), L19 I/O (487) (io), M16 I/O (514) (io), M17 I/O (511) (io), M18 I/O (508) (io), M19 I/O (502) (io), M20 I/O (499) (io), N16 I/O (535) (io), N17 I/O (529) (io), N18 I/O (523) (io), N19 I/O (517) (io), N20 I/O (505) (io), P16 I/O (553) (io), P17 I/O (544) (io), P18 I/O (538) (io), P19 I/O (526) (io), P20 I/O (520) (io), R16 I/O (571) (io), R17 I/O (559) (io), R18 I/O (550) (io), R19 I/O (532) (io), T6 I/O (763) (io), T7 I/O (745) (io), T8 I/O (727) (io), T9 I/O (706) (io), T10 I/O (685) (io), T11 I/O (664) (io), T12 I/O (D5) (643) (io), T13 I/O (622) (io), T14 I/O (604) (io), T15 I/O (589) (io), T17 I/O (574) (io), T18 I/O (562) (io), T19 I/O (547) (io), U5 I/O (766) (io), U6 I/O (D1) (751) (io), U7 I/O (736) (io), U8 I/O (721) (io), U9 I/O (703) (io), U10 I/O (688) (io), U11 I/O (670) (io), U12 I/O (649) (io), U13 I/O (631) (io), U14 I/O (616) (io), U15 I/O (601) (io), U16 I/O (592) (io), U18 I/O (577) (io), U19 I/O (565) (io), U20 I/O (541) (io), V2 I/O, GCK7 (A1) (5) (io), V4 I/O (D0, DIN) (769) (io), V5 I/O (~{RCLK}, RDY/~{BUSY}) (754) (io), V6 I/O (742) (io), V7 I/O (730) (io), V8 I/O (715) (io), V9 I/O (700) (io), V10 I/O (~{RS}) (682) (io), V11 I/O (D4) (673) (io), V12 I/O (658) (io), V13 I/O (640) (io), V14 I/O (634) (io), V15 I/O (619) (io), V16 I/O (610) (io), V17 I/O (595) (io), V19 I/O (568) (io), V20 I/O (556) (io), W3 I/O (760) (io), W4 I/O (757) (io), W5 I/O (739) (io), W6 I/O (724) (io), W7 I/O (718) (io), W8 I/O (D2) (709) (io), W9 I/O (694) (io), W10 I/O (D3) (679) (io), W11 I/O (676) (io), W12 I/O (661) (io), W13 I/O (652) (io), W14 I/O (637) (io), W15 I/O (628) (io), W16 I/O (625) (io), W17 I/O (D6) (607) (io), W18 I/O, GCK5 (586) (io), W19 I/O (D7) (583) (io), X1 I/O, GCK6 (DOUT) (772) (io), X3 I/O (748) (io), X4 I/O (733) (io), X7 I/O (712) (io), X8 I/O (697) (io), X9 I/O (691) (io), X12 I/O (667) (io), X13 I/O (655) (io), X14 I/O (~{CS0}) (646) (io), X17 I/O (613) (io), X18 I/O (598) (io), X20 I/O, GCK4 (580) (io)
part C pins: A2 VCC (power), A5 GND (power), A6 VCC (power), A10 GND (power), A11 VCC (power), A15 GND (power), A16 VCC (power), A19 GND (power), A20 O (M1) (386) (io), B1 GND (power), B20 VCC (power), C4 I/O, TCK (209) (io), C7 I/O, TMS (248) (io), C18 I (M0) (389) (in), D5 I/O, TDI (206) (io), D17 I (M2) (390) (in), E1 VCC (power), E5 VCC (power), E16 GND (power), E20 GND (power), F1 GND (power), F20 VCC (power), K1 VCC (power), K20 GND (power), L1 GND (power), L20 VCC (power), R1 VCC (power), R20 GND (power), T1 GND (power), T5 GND (power), T16 VCC (power), T20 VCC (power), U4 O, TDO (0) (hiz), U17 ~{PROGRAM} (in), V3 CCLK (io), V18 DONE (io), W1 VCC (power), W20 GND (power), X2 GND (power), X5 VCC (power), X6 GND (power), X10 VCC (power), X11 GND (power), X15 VCC (power), X16 GND (power), X19 VCC (power)

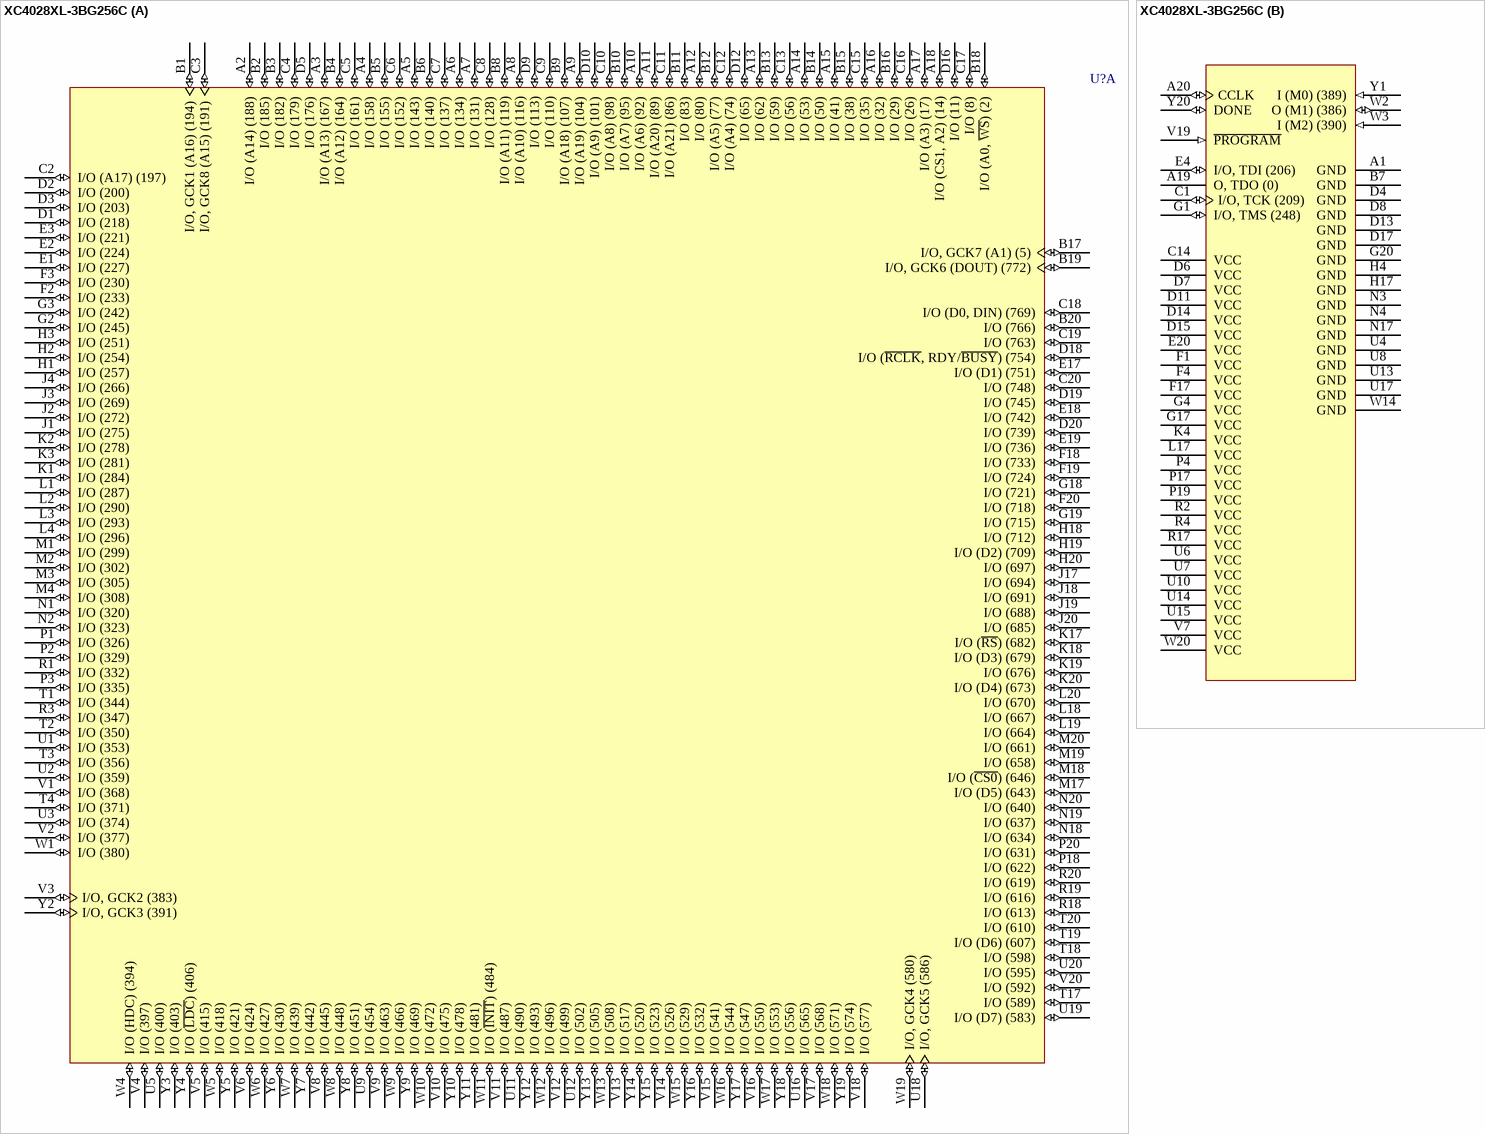
[diagram p208: symbol XC4028XL-3BG256C]

## XC4028XL-3BG256C
designator U?
XC4000XL FPGA, 256-Ball BGA, Commercial Grade; PackageDocument: ver1.1, Apr-2001; Published: 28-Feb-2003; DatasheetDocument: (v1.6) May-99; PackageReference: BG256; Publisher: Altium Limited; Code_JEDEC: MS-034-BAL-2
footprint BG256 (256-Ball Plastic Ball Grid Array (BG256))
part A pins: A2 I/O (A14) (188) (io), A3 I/O (A13) (167) (io), A4 I/O (158) (io), A5 I/O (143) (io), A6 I/O (134) (io), A7 I/O (131) (io), A8 I/O (A10) (116) (io), A9 I/O (A19) (104) (io), A10 I/O (A6) (92) (io), A11 I/O (A20) (89) (io), A12 I/O (80) (io), A13 I/O (62) (io), A14 I/O (53) (io), A15 I/O (41) (io), A16 I/O (32) (io), A17 I/O (A3) (17) (io), A18 I/O (CS1, A2) (14) (io), B1 I/O, GCK1 (A16) (194) (io), B2 I/O (185) (io), B3 I/O (182) (io), B4 I/O (A12) (164) (io), B5 I/O (155) (io), B6 I/O (140) (io), B8 I/O (A11) (119) (io), B9 I/O (A18) (107) (io), B10 I/O (A7) (95) (io), B11 I/O (83) (io), B12 I/O (A5) (77) (io), B13 I/O (59) (io), B14 I/O (50) (io), B15 I/O (38) (io), B16 I/O (29) (io), B17 I/O, GCK7 (A1) (5) (io), B18 I/O (A0, ~{WS}) (2) (io), B19 I/O, GCK6 (DOUT) (772) (io), B20 I/O (766) (io), C2 I/O (A17) (197) (io), C3 I/O, GCK8 (A15) (191) (io), C4 I/O (179) (io), C5 I/O (161) (io), C6 I/O (152) (io), C7 I/O (137) (io), C8 I/O (128) (io), C9 I/O (110) (io), C10 I/O (A8) (98) (io), C11 I/O (A21) (86) (io), C12 I/O (A4) (74) (io), C13 I/O (56) (io), C15 I/O (35) (io), C16 I/O (26) (io), C17 I/O (8) (io), C18 I/O (D0, DIN) (769) (io), C19 I/O (763) (io), C20 I/O (748) (io), D1 I/O (218) (io), D2 I/O (200) (io), D3 I/O (203) (io), D5 I/O (176) (io), D9 I/O (113) (io), D10 I/O (A9) (101) (io), D12 I/O (65) (io), D16 I/O (11) (io), D18 I/O (~{RCLK}, RDY/~{BUSY}) (754) (io), D19 I/O (745) (io), D20 I/O (739) (io), E1 I/O (227) (io), E2 I/O (224) (io), E3 I/O (221) (io), E17 I/O (D1) (751) (io), E18 I/O (742) (io), E19 I/O (736) (io), F2 I/O (233) (io), F3 I/O (230) (io), F18 I/O (733) (io), F19 I/O (724) (io), F20 I/O (718) (io), G2 I/O (245) (io), G3 I/O (242) (io), G18 I/O (721) (io), G19 I/O (715) (io), H1 I/O (257) (io), H2 I/O (254) (io), H3 I/O (251) (io), H18 I/O (712) (io), H19 I/O (D2) (709) (io), H20 I/O (697) (io), J1 I/O (275) (io), J2 I/O (272) (io), J3 I/O (269) (io), J4 I/O (266) (io), J17 I/O (694) (io), J18 I/O (691) (io), J19 I/O (688) (io), J20 I/O (685) (io), K1 I/O (284) (io), K2 I/O (278) (io), K3 I/O (281) (io), K17 I/O (~{RS}) (682) (io), K18 I/O (D3) (679) (io), K19 I/O (676) (io), K20 I/O (D4) (673) (io), L1 I/O (287) (io), L2 I/O (290) (io), L3 I/O (293) (io), L4 I/O (296) (io), L18 I/O (667) (io), L19 I/O (664) (io), L20 I/O (670) (io), M1 I/O (299) (io), M2 I/O (302) (io), M3 I/O (305) (io), M4 I/O (308) (io), M17 I/O (D5) (643) (io), M18 I/O (~{CS0}) (646) (io), M19 I/O (658) (io), M20 I/O (661) (io), N1 I/O (320) (io), N2 I/O (323) (io), N18 I/O (634) (io), N19 I/O (637) (io), N20 I/O (640) (io), P1 I/O (326) (io), P2 I/O (329) (io), P3 I/O (335) (io), P18 I/O (622) (io), P20 I/O (631) (io), R1 I/O (332) (io), R3 I/O (347) (io), R18 I/O (613) (io), R19 I/O (616) (io), R20 I/O (619) (io), T1 I/O (344) (io), T2 I/O (350) (io), T3 I/O (356) (io), T4 I/O (371) (io), T17 I/O (589) (io), T18 I/O (598) (io), T19 I/O (D6) (607) (io), T20 I/O (610) (io), U1 I/O (353) (io), U2 I/O (359) (io), U3 I/O (374) (io), U5 I/O (400) (io), U9 I/O (454) (io), U11 I/O (490) (io), U12 I/O (502) (io), U16 I/O (565) (io), U18 I/O, GCK5 (586) (io), U19 I/O (D7) (583) (io), U20 I/O (595) (io), V1 I/O (368) (io), V2 I/O (377) (io), V3 I/O, GCK2 (383) (io), V4 I/O (397) (io), V5 I/O (415) (io), V6 I/O (424) (io), V8 I/O (445) (io), V9 I/O (463) (io), V10 I/O (475) (io), V11 I/O (487) (io), V12 I/O (499) (io), V13 I/O (517) (io), V14 I/O (526) (io), V15 I/O (541) (io), V16 I/O (550) (io), V17 I/O (568) (io), V18 I/O (577) (io), V20 I/O (592) (io), W1 I/O (380) (io), W4 I/O (HDC) (394) (io), W5 I/O (418) (io), W6 I/O (427) (io), W7 I/O (439) (io), W8 I/O (448) (io), W9 I/O (466) (io), W10 I/O (472) (io), W11 I/O (~{INIT}) (484) (io), W12 I/O (496) (io), W13 I/O (508) (io), W15 I/O (529) (io), W16 I/O (544) (io), W17 I/O (553) (io), W18 I/O (571) (io), W19 I/O, GCK4 (580) (io), Y2 I/O, GCK3 (391) (io), Y3 I/O (403) (io), Y4 I/O (~{LDC}) (406) (io), Y5 I/O (421) (io), Y6 I/O (430) (io), Y7 I/O (442) (io), Y8 I/O (451) (io), Y9 I/O (469) (io), Y10 I/O (478) (io), Y11 I/O (481) (io), Y12 I/O (493) (io), Y13 I/O (505) (io), Y14 I/O (520) (io), Y15 I/O (523) (io), Y16 I/O (532) (io), Y17 I/O (547) (io), Y18 I/O (556) (io), Y19 I/O (574) (io)
part B pins: A1 GND (power), A19 O, TDO (0) (hiz), A20 CCLK (io), B7 GND (power), C1 I/O, TCK (209) (io), C14 VCC (power), D4 GND (power), D6 VCC (power), D7 VCC (power), D8 GND (power), D11 VCC (power), D13 GND (power), D14 VCC (power), D15 VCC (power), D17 GND (power), E4 I/O, TDI (206) (io), E20 VCC (power), F1 VCC (power), F4 VCC (power), F17 VCC (power), G1 I/O, TMS (248) (io), G4 VCC (power), G17 VCC (power), G20 GND (power), H4 GND (power), H17 GND (power), K4 VCC (power), L17 VCC (power), N3 GND (power), N4 GND (power), N17 GND (power), P4 VCC (power), P17 VCC (power), P19 VCC (power), R2 VCC (power), R4 VCC (power), R17 VCC (power), U4 GND (power), U6 VCC (power), U7 VCC (power), U8 GND (power), U10 VCC (power), U13 GND (power), U14 VCC (power), U15 VCC (power), U17 GND (power), V7 VCC (power), V19 ~{PROGRAM} (in), W2 O (M1) (386) (io), W3 I (M2) (390) (in), W14 GND (power), W20 VCC (power), Y1 I (M0) (389) (in), Y20 DONE (io)

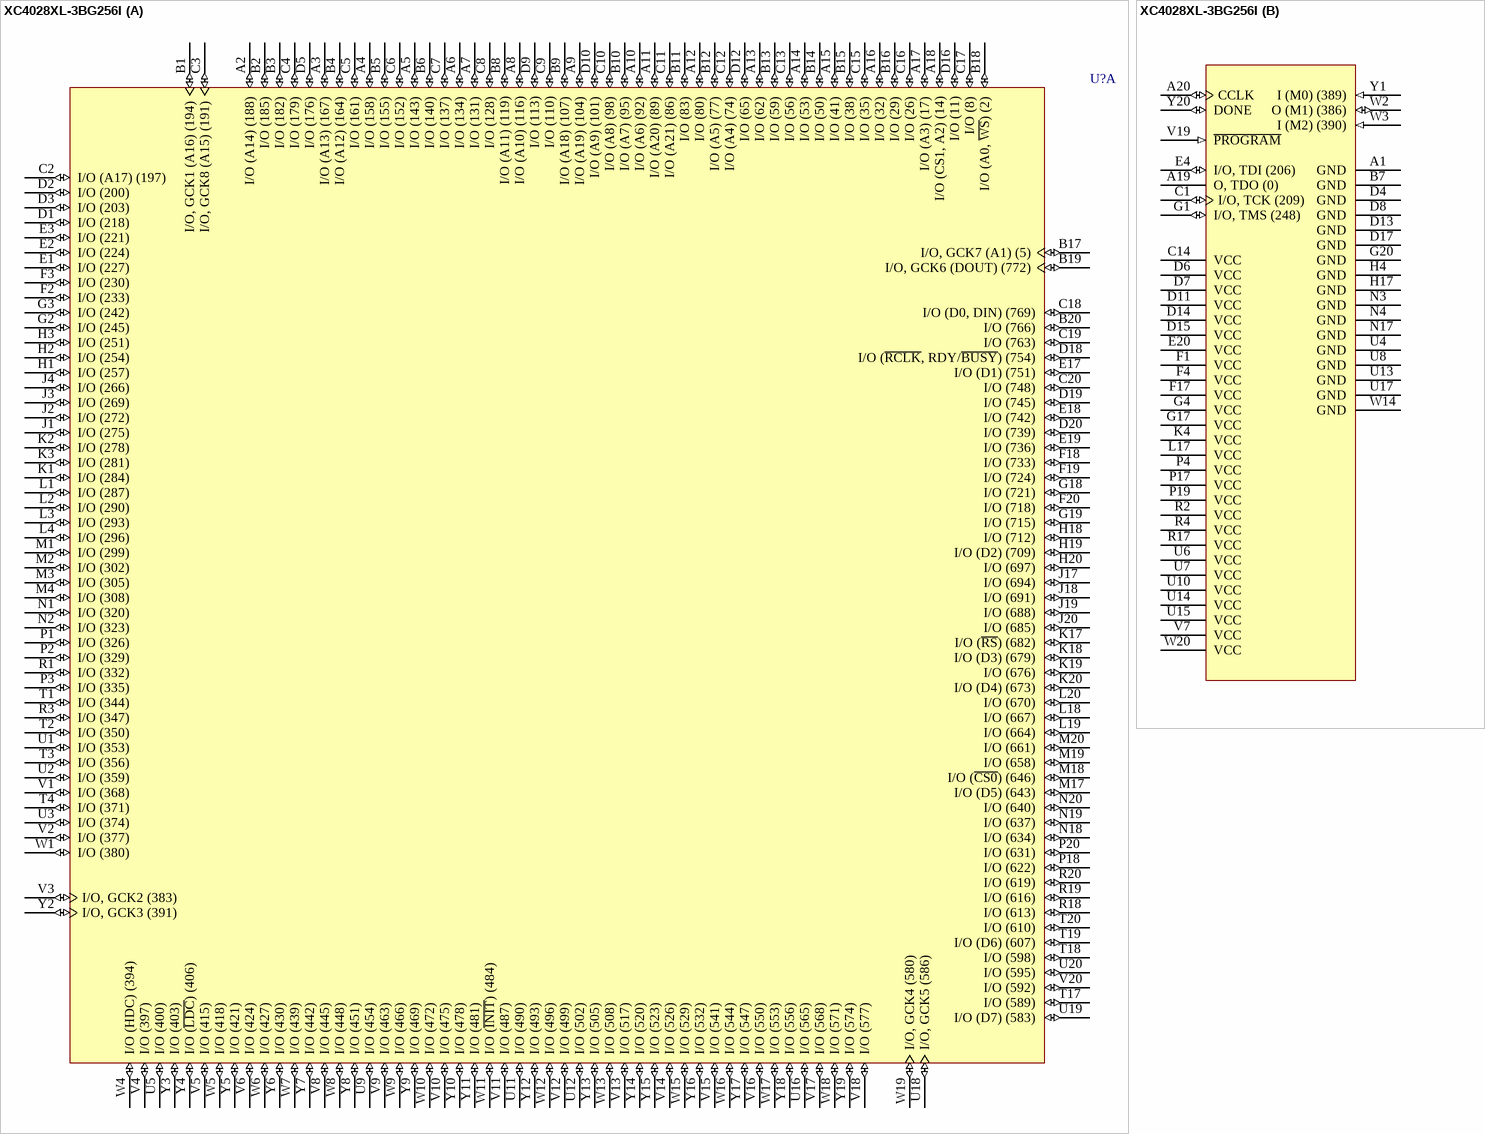
[diagram p209: symbol XC4028XL-3BG256I]

## XC4028XL-3BG256I
designator U?
XC4000XL FPGA, 256-Ball BGA, Industrial Grade; PackageDocument: ver1.1, Apr-2001; Published: 28-Feb-2003; DatasheetDocument: (v1.6) May-99; PackageReference: BG256; Publisher: Altium Limited; Code_JEDEC: MS-034-BAL-2
footprint BG256 (256-Ball Plastic Ball Grid Array (BG256))
part A pins: A2 I/O (A14) (188) (io), A3 I/O (A13) (167) (io), A4 I/O (158) (io), A5 I/O (143) (io), A6 I/O (134) (io), A7 I/O (131) (io), A8 I/O (A10) (116) (io), A9 I/O (A19) (104) (io), A10 I/O (A6) (92) (io), A11 I/O (A20) (89) (io), A12 I/O (80) (io), A13 I/O (62) (io), A14 I/O (53) (io), A15 I/O (41) (io), A16 I/O (32) (io), A17 I/O (A3) (17) (io), A18 I/O (CS1, A2) (14) (io), B1 I/O, GCK1 (A16) (194) (io), B2 I/O (185) (io), B3 I/O (182) (io), B4 I/O (A12) (164) (io), B5 I/O (155) (io), B6 I/O (140) (io), B8 I/O (A11) (119) (io), B9 I/O (A18) (107) (io), B10 I/O (A7) (95) (io), B11 I/O (83) (io), B12 I/O (A5) (77) (io), B13 I/O (59) (io), B14 I/O (50) (io), B15 I/O (38) (io), B16 I/O (29) (io), B17 I/O, GCK7 (A1) (5) (io), B18 I/O (A0, ~{WS}) (2) (io), B19 I/O, GCK6 (DOUT) (772) (io), B20 I/O (766) (io), C2 I/O (A17) (197) (io), C3 I/O, GCK8 (A15) (191) (io), C4 I/O (179) (io), C5 I/O (161) (io), C6 I/O (152) (io), C7 I/O (137) (io), C8 I/O (128) (io), C9 I/O (110) (io), C10 I/O (A8) (98) (io), C11 I/O (A21) (86) (io), C12 I/O (A4) (74) (io), C13 I/O (56) (io), C15 I/O (35) (io), C16 I/O (26) (io), C17 I/O (8) (io), C18 I/O (D0, DIN) (769) (io), C19 I/O (763) (io), C20 I/O (748) (io), D1 I/O (218) (io), D2 I/O (200) (io), D3 I/O (203) (io), D5 I/O (176) (io), D9 I/O (113) (io), D10 I/O (A9) (101) (io), D12 I/O (65) (io), D16 I/O (11) (io), D18 I/O (~{RCLK}, RDY/~{BUSY}) (754) (io), D19 I/O (745) (io), D20 I/O (739) (io), E1 I/O (227) (io), E2 I/O (224) (io), E3 I/O (221) (io), E17 I/O (D1) (751) (io), E18 I/O (742) (io), E19 I/O (736) (io), F2 I/O (233) (io), F3 I/O (230) (io), F18 I/O (733) (io), F19 I/O (724) (io), F20 I/O (718) (io), G2 I/O (245) (io), G3 I/O (242) (io), G18 I/O (721) (io), G19 I/O (715) (io), H1 I/O (257) (io), H2 I/O (254) (io), H3 I/O (251) (io), H18 I/O (712) (io), H19 I/O (D2) (709) (io), H20 I/O (697) (io), J1 I/O (275) (io), J2 I/O (272) (io), J3 I/O (269) (io), J4 I/O (266) (io), J17 I/O (694) (io), J18 I/O (691) (io), J19 I/O (688) (io), J20 I/O (685) (io), K1 I/O (284) (io), K2 I/O (278) (io), K3 I/O (281) (io), K17 I/O (~{RS}) (682) (io), K18 I/O (D3) (679) (io), K19 I/O (676) (io), K20 I/O (D4) (673) (io), L1 I/O (287) (io), L2 I/O (290) (io), L3 I/O (293) (io), L4 I/O (296) (io), L18 I/O (667) (io), L19 I/O (664) (io), L20 I/O (670) (io), M1 I/O (299) (io), M2 I/O (302) (io), M3 I/O (305) (io), M4 I/O (308) (io), M17 I/O (D5) (643) (io), M18 I/O (~{CS0}) (646) (io), M19 I/O (658) (io), M20 I/O (661) (io), N1 I/O (320) (io), N2 I/O (323) (io), N18 I/O (634) (io), N19 I/O (637) (io), N20 I/O (640) (io), P1 I/O (326) (io), P2 I/O (329) (io), P3 I/O (335) (io), P18 I/O (622) (io), P20 I/O (631) (io), R1 I/O (332) (io), R3 I/O (347) (io), R18 I/O (613) (io), R19 I/O (616) (io), R20 I/O (619) (io), T1 I/O (344) (io), T2 I/O (350) (io), T3 I/O (356) (io), T4 I/O (371) (io), T17 I/O (589) (io), T18 I/O (598) (io), T19 I/O (D6) (607) (io), T20 I/O (610) (io), U1 I/O (353) (io), U2 I/O (359) (io), U3 I/O (374) (io), U5 I/O (400) (io), U9 I/O (454) (io), U11 I/O (490) (io), U12 I/O (502) (io), U16 I/O (565) (io), U18 I/O, GCK5 (586) (io), U19 I/O (D7) (583) (io), U20 I/O (595) (io), V1 I/O (368) (io), V2 I/O (377) (io), V3 I/O, GCK2 (383) (io), V4 I/O (397) (io), V5 I/O (415) (io), V6 I/O (424) (io), V8 I/O (445) (io), V9 I/O (463) (io), V10 I/O (475) (io), V11 I/O (487) (io), V12 I/O (499) (io), V13 I/O (517) (io), V14 I/O (526) (io), V15 I/O (541) (io), V16 I/O (550) (io), V17 I/O (568) (io), V18 I/O (577) (io), V20 I/O (592) (io), W1 I/O (380) (io), W4 I/O (HDC) (394) (io), W5 I/O (418) (io), W6 I/O (427) (io), W7 I/O (439) (io), W8 I/O (448) (io), W9 I/O (466) (io), W10 I/O (472) (io), W11 I/O (~{INIT}) (484) (io), W12 I/O (496) (io), W13 I/O (508) (io), W15 I/O (529) (io), W16 I/O (544) (io), W17 I/O (553) (io), W18 I/O (571) (io), W19 I/O, GCK4 (580) (io), Y2 I/O, GCK3 (391) (io), Y3 I/O (403) (io), Y4 I/O (~{LDC}) (406) (io), Y5 I/O (421) (io), Y6 I/O (430) (io), Y7 I/O (442) (io), Y8 I/O (451) (io), Y9 I/O (469) (io), Y10 I/O (478) (io), Y11 I/O (481) (io), Y12 I/O (493) (io), Y13 I/O (505) (io), Y14 I/O (520) (io), Y15 I/O (523) (io), Y16 I/O (532) (io), Y17 I/O (547) (io), Y18 I/O (556) (io), Y19 I/O (574) (io)
part B pins: A1 GND (power), A19 O, TDO (0) (hiz), A20 CCLK (io), B7 GND (power), C1 I/O, TCK (209) (io), C14 VCC (power), D4 GND (power), D6 VCC (power), D7 VCC (power), D8 GND (power), D11 VCC (power), D13 GND (power), D14 VCC (power), D15 VCC (power), D17 GND (power), E4 I/O, TDI (206) (io), E20 VCC (power), F1 VCC (power), F4 VCC (power), F17 VCC (power), G1 I/O, TMS (248) (io), G4 VCC (power), G17 VCC (power), G20 GND (power), H4 GND (power), H17 GND (power), K4 VCC (power), L17 VCC (power), N3 GND (power), N4 GND (power), N17 GND (power), P4 VCC (power), P17 VCC (power), P19 VCC (power), R2 VCC (power), R4 VCC (power), R17 VCC (power), U4 GND (power), U6 VCC (power), U7 VCC (power), U8 GND (power), U10 VCC (power), U13 GND (power), U14 VCC (power), U15 VCC (power), U17 GND (power), V7 VCC (power), V19 ~{PROGRAM} (in), W2 O (M1) (386) (io), W3 I (M2) (390) (in), W14 GND (power), W20 VCC (power), Y1 I (M0) (389) (in), Y20 DONE (io)

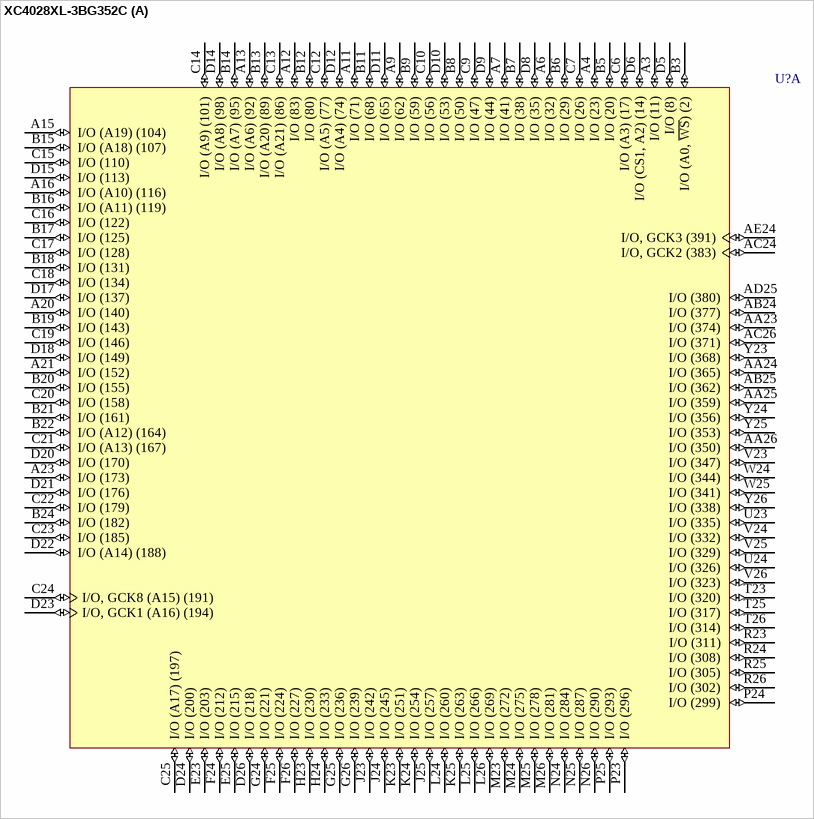
[diagram p210: symbol XC4028XL-3BG352C]

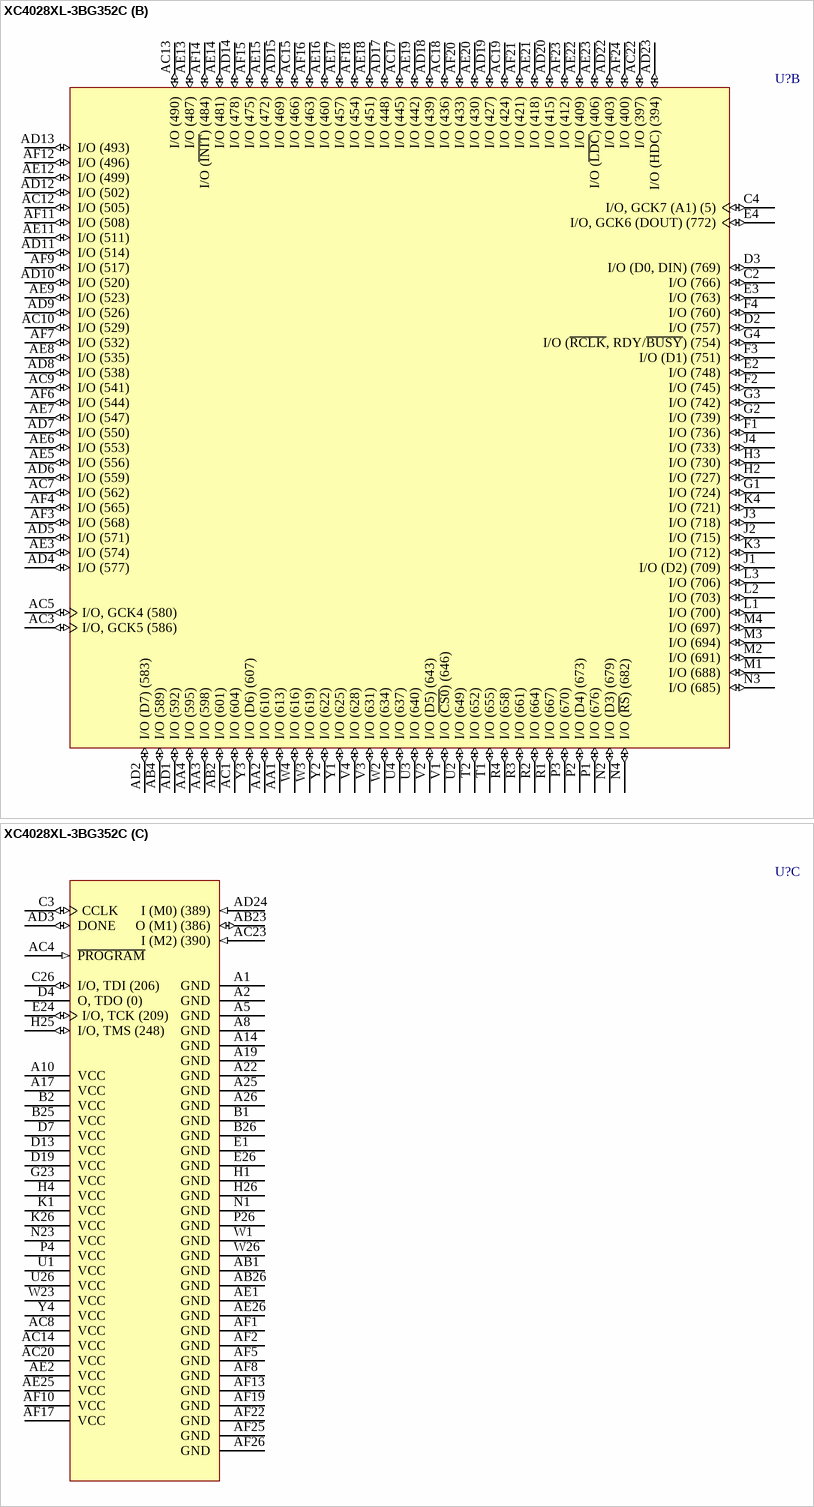
[diagram p211: symbol XC4028XL-3BG352C]

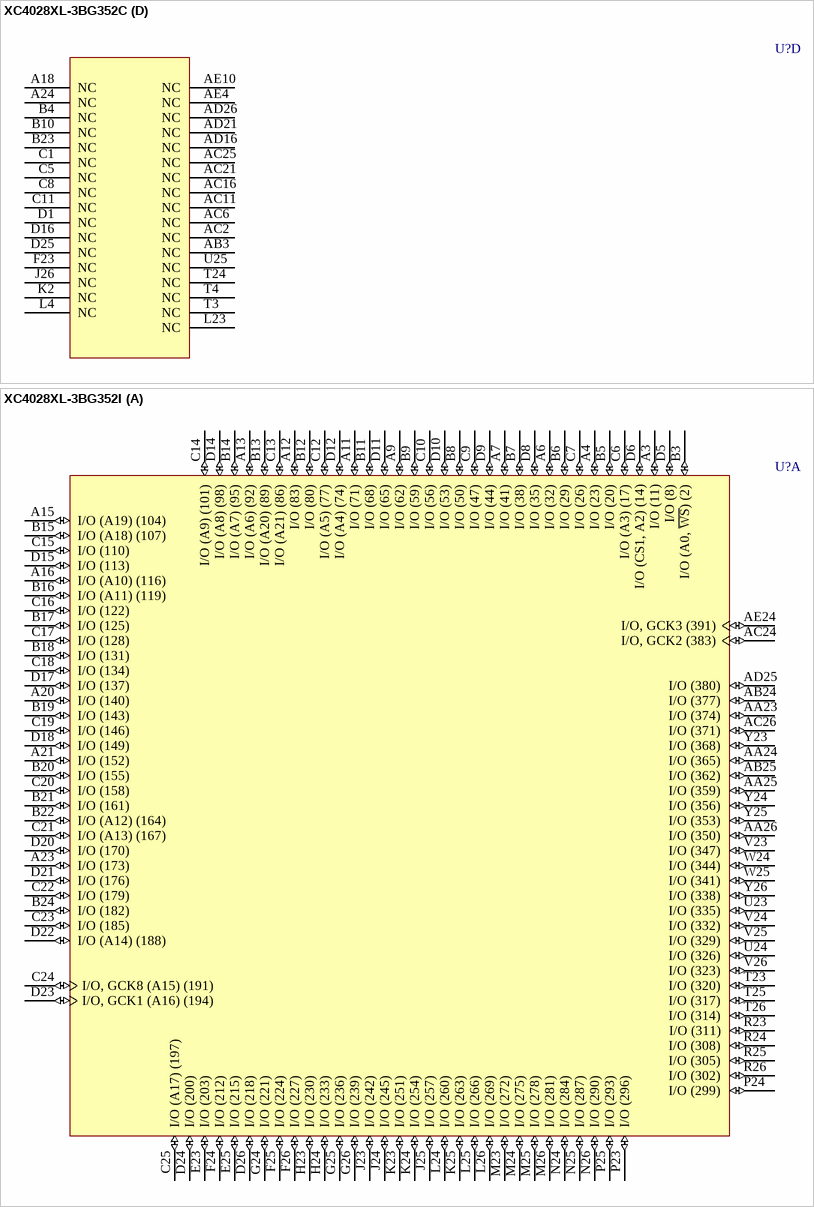
[diagram p212: symbols XC4028XL-3BG352C to XC4028XL-3BG352I]

## XC4028XL-3BG352C
designator U?
XC4000XL FPGA, 352-Ball BGA, Commercial Grade; PackageDocument: ver1.1, Apr-2001; Published: 28-Feb-2003; DatasheetDocument: (v1.6) May-99; PackageReference: BG352; Publisher: Altium Limited; Code_JEDEC: MO-192-BAR-2
footprint BG352 (352-Ball Metal Ball Grid Array (BG352))
part A pins: A3 I/O (11) (io), A4 I/O (23) (io), A6 I/O (32) (io), A7 I/O (41) (io), A9 I/O (62) (io), A11 I/O (71) (io), A12 I/O (83) (io), A13 I/O (A6) (92) (io), A15 I/O (A19) (104) (io), A16 I/O (A10) (116) (io), A20 I/O (140) (io), A21 I/O (152) (io), A23 I/O (173) (io), AA23 I/O (374) (io), AA24 I/O (365) (io), AA25 I/O (359) (io), AA26 I/O (350) (io), AB24 I/O (377) (io), AB25 I/O (362) (io), AC24 I/O, GCK2 (383) (io), AC26 I/O (371) (io), AD25 I/O (380) (io), AE24 I/O, GCK3 (391) (io), B3 I/O (A0, ~{WS}) (2) (io), B5 I/O (20) (io), B6 I/O (29) (io), B7 I/O (38) (io), B8 I/O (50) (io), B9 I/O (59) (io), B11 I/O (68) (io), B12 I/O (80) (io), B13 I/O (A20) (89) (io), B14 I/O (A7) (95) (io), B15 I/O (A18) (107) (io), B16 I/O (A11) (119) (io), B17 I/O (125) (io), B18 I/O (131) (io), B19 I/O (143) (io), B20 I/O (155) (io), B21 I/O (161) (io), B22 I/O (A12) (164) (io), B24 I/O (182) (io), C6 I/O (A3) (17) (io), C7 I/O (26) (io), C9 I/O (47) (io), C10 I/O (56) (io), C12 I/O (A5) (77) (io), C13 I/O (A21) (86) (io), C14 I/O (A9) (101) (io), C15 I/O (110) (io), C16 I/O (122) (io), C17 I/O (128) (io), C18 I/O (134) (io), C19 I/O (146) (io), C20 I/O (158) (io), C21 I/O (A13) (167) (io), C22 I/O (179) (io), C23 I/O (185) (io), C24 I/O, GCK8 (A15) (191) (io), C25 I/O (A17) (197) (io), D5 I/O (8) (io), D6 I/O (CS1, A2) (14) (io), D8 I/O (35) (io), D9 I/O (44) (io), D10 I/O (53) (io), D11 I/O (65) (io), D12 I/O (A4) (74) (io), D14 I/O (A8) (98) (io), D15 I/O (113) (io), D17 I/O (137) (io), D18 I/O (149) (io), D20 I/O (170) (io), D21 I/O (176) (io), D22 I/O (A14) (188) (io), D23 I/O, GCK1 (A16) (194) (io), D24 I/O (200) (io), D26 I/O (218) (io), E23 I/O (203) (io), E25 I/O (215) (io), F24 I/O (212) (io), F25 I/O (224) (io), F26 I/O (227) (io), G24 I/O (221) (io), G25 I/O (236) (io), G26 I/O (239) (io), H23 I/O (230) (io), H24 I/O (233) (io), J23 I/O (242) (io), J24 I/O (245) (io), J25 I/O (257) (io), K23 I/O (251) (io), K24 I/O (254) (io), K25 I/O (263) (io), L24 I/O (260) (io), L25 I/O (266) (io), L26 I/O (269) (io), M23 I/O (272) (io), M24 I/O (275) (io), M25 I/O (278) (io), M26 I/O (281) (io), N24 I/O (284) (io), N25 I/O (287) (io), N26 I/O (290) (io), P23 I/O (296) (io), P24 I/O (299) (io), P25 I/O (293) (io), R23 I/O (311) (io), R24 I/O (308) (io), R25 I/O (305) (io), R26 I/O (302) (io), T23 I/O (320) (io), T25 I/O (317) (io), T26 I/O (314) (io), U23 I/O (335) (io), U24 I/O (326) (io), V23 I/O (347) (io), V24 I/O (332) (io), V25 I/O (329) (io), V26 I/O (323) (io), W24 I/O (344) (io), W25 I/O (341) (io), Y23 I/O (368) (io), Y24 I/O (356) (io), Y25 I/O (353) (io), Y26 I/O (338) (io)
part B pins: AA1 I/O (613) (io), AA2 I/O (610) (io), AA3 I/O (598) (io), AA4 I/O (595) (io), AB2 I/O (601) (io), AB4 I/O (589) (io), AC1 I/O (604) (io), AC3 I/O, GCK5 (586) (io), AC5 I/O, GCK4 (580) (io), AC7 I/O (562) (io), AC9 I/O (541) (io), AC10 I/O (529) (io), AC12 I/O (505) (io), AC13 I/O (490) (io), AC15 I/O (466) (io), AC17 I/O (445) (io), AC18 I/O (436) (io), AC19 I/O (424) (io), AC22 I/O (397) (io), AD1 I/O (592) (io), AD2 I/O (D7) (583) (io), AD4 I/O (577) (io), AD5 I/O (571) (io), AD6 I/O (559) (io), AD7 I/O (550) (io), AD8 I/O (538) (io), AD9 I/O (526) (io), AD10 I/O (520) (io), AD11 I/O (514) (io), AD12 I/O (502) (io), AD13 I/O (493) (io), AD14 I/O (478) (io), AD15 I/O (469) (io), AD17 I/O (448) (io), AD18 I/O (439) (io), AD19 I/O (427) (io), AD20 I/O (415) (io), AD22 I/O (403) (io), AD23 I/O (HDC) (394) (io), AE3 I/O (574) (io), AE5 I/O (556) (io), AE6 I/O (553) (io), AE7 I/O (547) (io), AE8 I/O (535) (io), AE9 I/O (523) (io), AE11 I/O (511) (io), AE12 I/O (499) (io), AE13 I/O (487) (io), AE14 I/O (481) (io), AE15 I/O (472) (io), AE16 I/O (460) (io), AE17 I/O (457) (io), AE18 I/O (451) (io), AE19 I/O (442) (io), AE20 I/O (430) (io), AE21 I/O (418) (io), AE22 I/O (409) (io), AE23 I/O (~{LDC}) (406) (io), AF3 I/O (568) (io), AF4 I/O (565) (io), AF6 I/O (544) (io), AF7 I/O (532) (io), AF9 I/O (517) (io), AF11 I/O (508) (io), AF12 I/O (496) (io), AF14 I/O (~{INIT}) (484) (io), AF15 I/O (475) (io), AF16 I/O (463) (io), AF18 I/O (454) (io), AF20 I/O (433) (io), AF21 I/O (421) (io), AF23 I/O (412) (io), AF24 I/O (400) (io), C2 I/O (766) (io), C4 I/O, GCK7 (A1) (5) (io), D2 I/O (757) (io), D3 I/O (D0, DIN) (769) (io), E2 I/O (748) (io), E3 I/O (763) (io), E4 I/O, GCK6 (DOUT) (772) (io), F1 I/O (736) (io), F2 I/O (745) (io), F3 I/O (D1) (751) (io), F4 I/O (760) (io), G1 I/O (724) (io), G2 I/O (739) (io), G3 I/O (742) (io), G4 I/O (~{RCLK}, RDY/~{BUSY}) (754) (io), H2 I/O (727) (io), H3 I/O (730) (io), J1 I/O (D2) (709) (io), J2 I/O (715) (io), J3 I/O (718) (io), J4 I/O (733) (io), K3 I/O (712) (io), K4 I/O (721) (io), L1 I/O (700) (io), L2 I/O (703) (io), L3 I/O (706) (io), M1 I/O (688) (io), M2 I/O (691) (io), M3 I/O (694) (io), M4 I/O (697) (io), N2 I/O (D3) (679) (io), N3 I/O (685) (io), N4 I/O (~{RS}) (682) (io), P1 I/O (676) (io), P2 I/O (D4) (673) (io), P3 I/O (670) (io), R1 I/O (667) (io), R2 I/O (664) (io), R3 I/O (661) (io), R4 I/O (658) (io), T1 I/O (655) (io), T2 I/O (652) (io), U2 I/O (649) (io), U3 I/O (640) (io), U4 I/O (637) (io), V1 I/O (~{CS0}) (646) (io), V2 I/O (D5) (643) (io), V3 I/O (631) (io), V4 I/O (628) (io), W2 I/O (634) (io), W3 I/O (619) (io), W4 I/O (616) (io), Y1 I/O (625) (io), Y2 I/O (622) (io), Y3 I/O (D6) (607) (io)
part C pins: A1 GND (power), A2 GND (power), A5 GND (power), A8 GND (power), A10 VCC (power), A14 GND (power), A17 VCC (power), A19 GND (power), A22 GND (power), A25 GND (power), A26 GND (power), AB1 GND (power), AB23 O (M1) (386) (io), AB26 GND (power), AC4 ~{PROGRAM} (in), AC8 VCC (power), AC14 VCC (power), AC20 VCC (power), AC23 I (M2) (390) (in), AD3 DONE (io), AD24 I (M0) (389) (in), AE1 GND (power), AE2 VCC (power), AE25 VCC (power), AE26 GND (power), AF1 GND (power), AF2 GND (power), AF5 GND (power), AF8 GND (power), AF10 VCC (power), AF13 GND (power), AF17 VCC (power), AF19 GND (power), AF22 GND (power), AF25 GND (power), AF26 GND (power), B1 GND (power), B2 VCC (power), B25 VCC (power), B26 GND (power), C3 CCLK (io), C26 I/O, TDI (206) (io), D4 O, TDO (0) (hiz), D7 VCC (power), D13 VCC (power), D19 VCC (power), E1 GND (power), E24 I/O, TCK (209) (io), E26 GND (power), G23 VCC (power), H1 GND (power), H4 VCC (power), H25 I/O, TMS (248) (io), H26 GND (power), K1 VCC (power), K26 VCC (power), N1 GND (power), N23 VCC (power), P4 VCC (power), P26 GND (power), U1 VCC (power), U26 VCC (power), W1 GND (power), W23 VCC (power), W26 GND (power), Y4 VCC (power)
part D pins: A18 NC, A24 NC, AB3 NC, AC2 NC, AC6 NC, AC11 NC, AC16 NC, AC21 NC, AC25 NC, AD16 NC, AD21 NC, AD26 NC, AE4 NC, AE10 NC, B4 NC, B10 NC, B23 NC, C1 NC, C5 NC, C8 NC, C11 NC, D1 NC, D16 NC, D25 NC, F23 NC, J26 NC, K2 NC, L4 NC, L23 NC, T3 NC, T4 NC, T24 NC, U25 NC

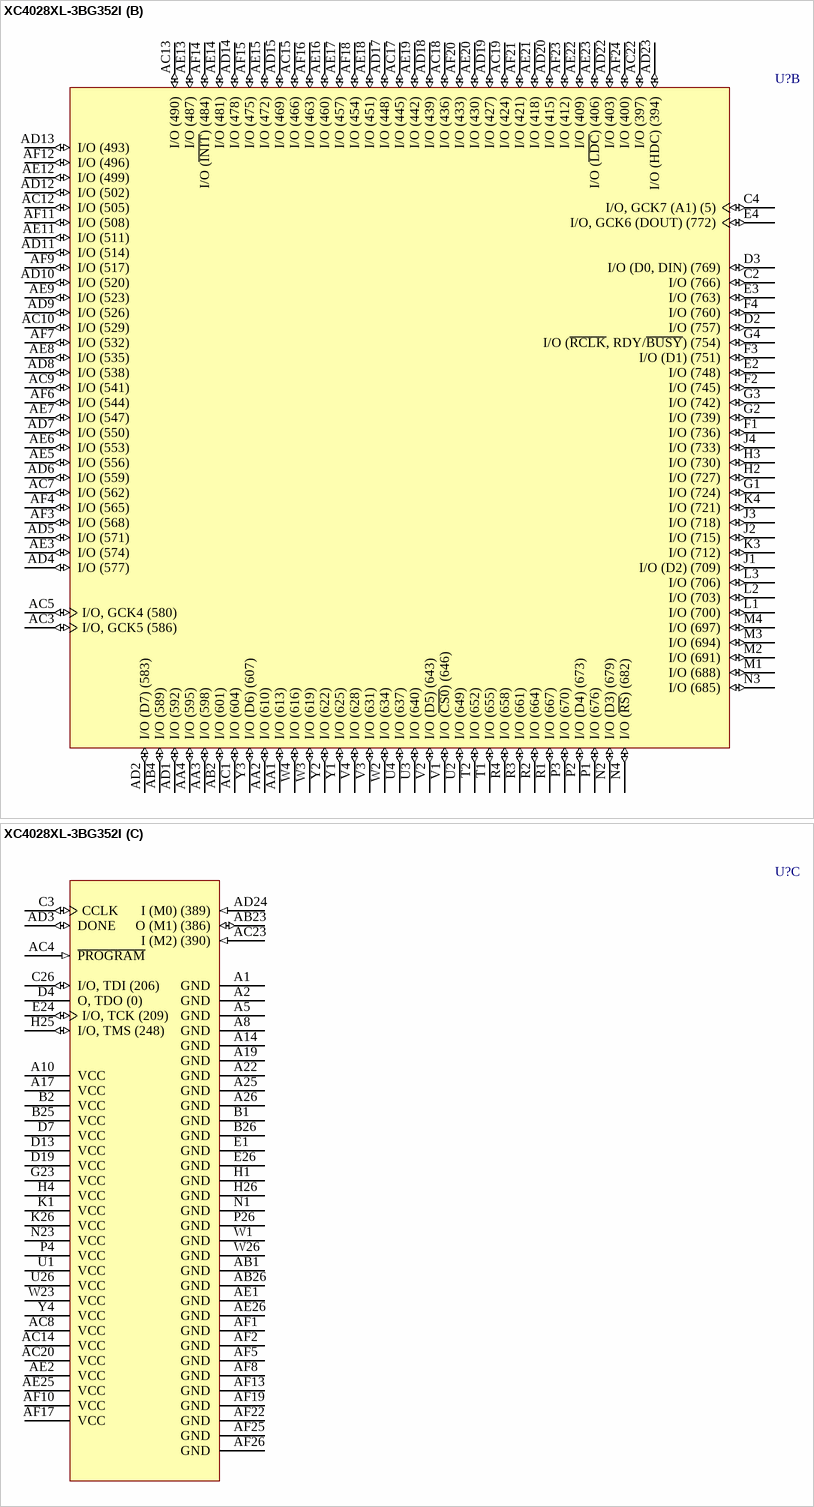
[diagram p213: symbol XC4028XL-3BG352I]

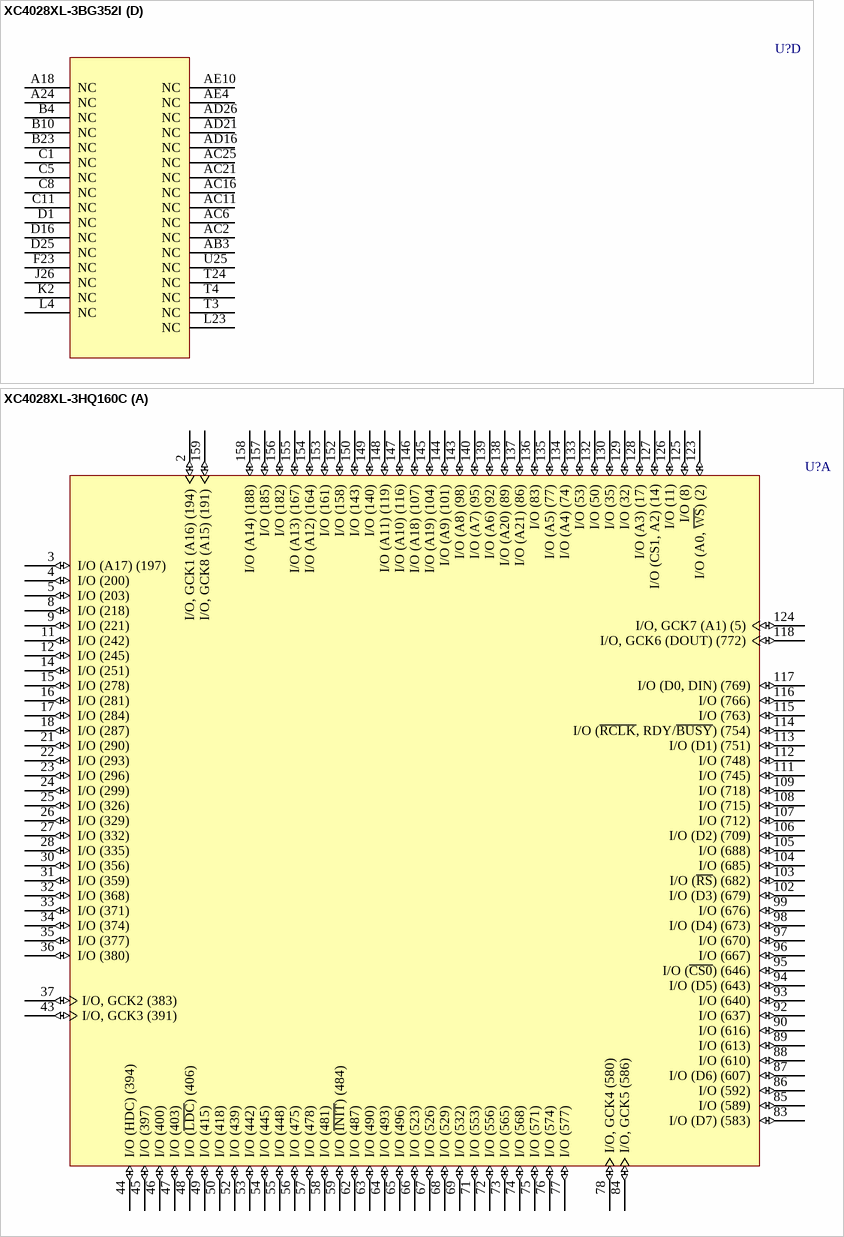
[diagram p214: symbols XC4028XL-3BG352I to XC4028XL-3HQ160C]